# Altium schematic symbol library Pi_AddOn_Rev2.SchLib: 135 symbols
Pins are listed as number, name and electrical type; pins without a type are passive.

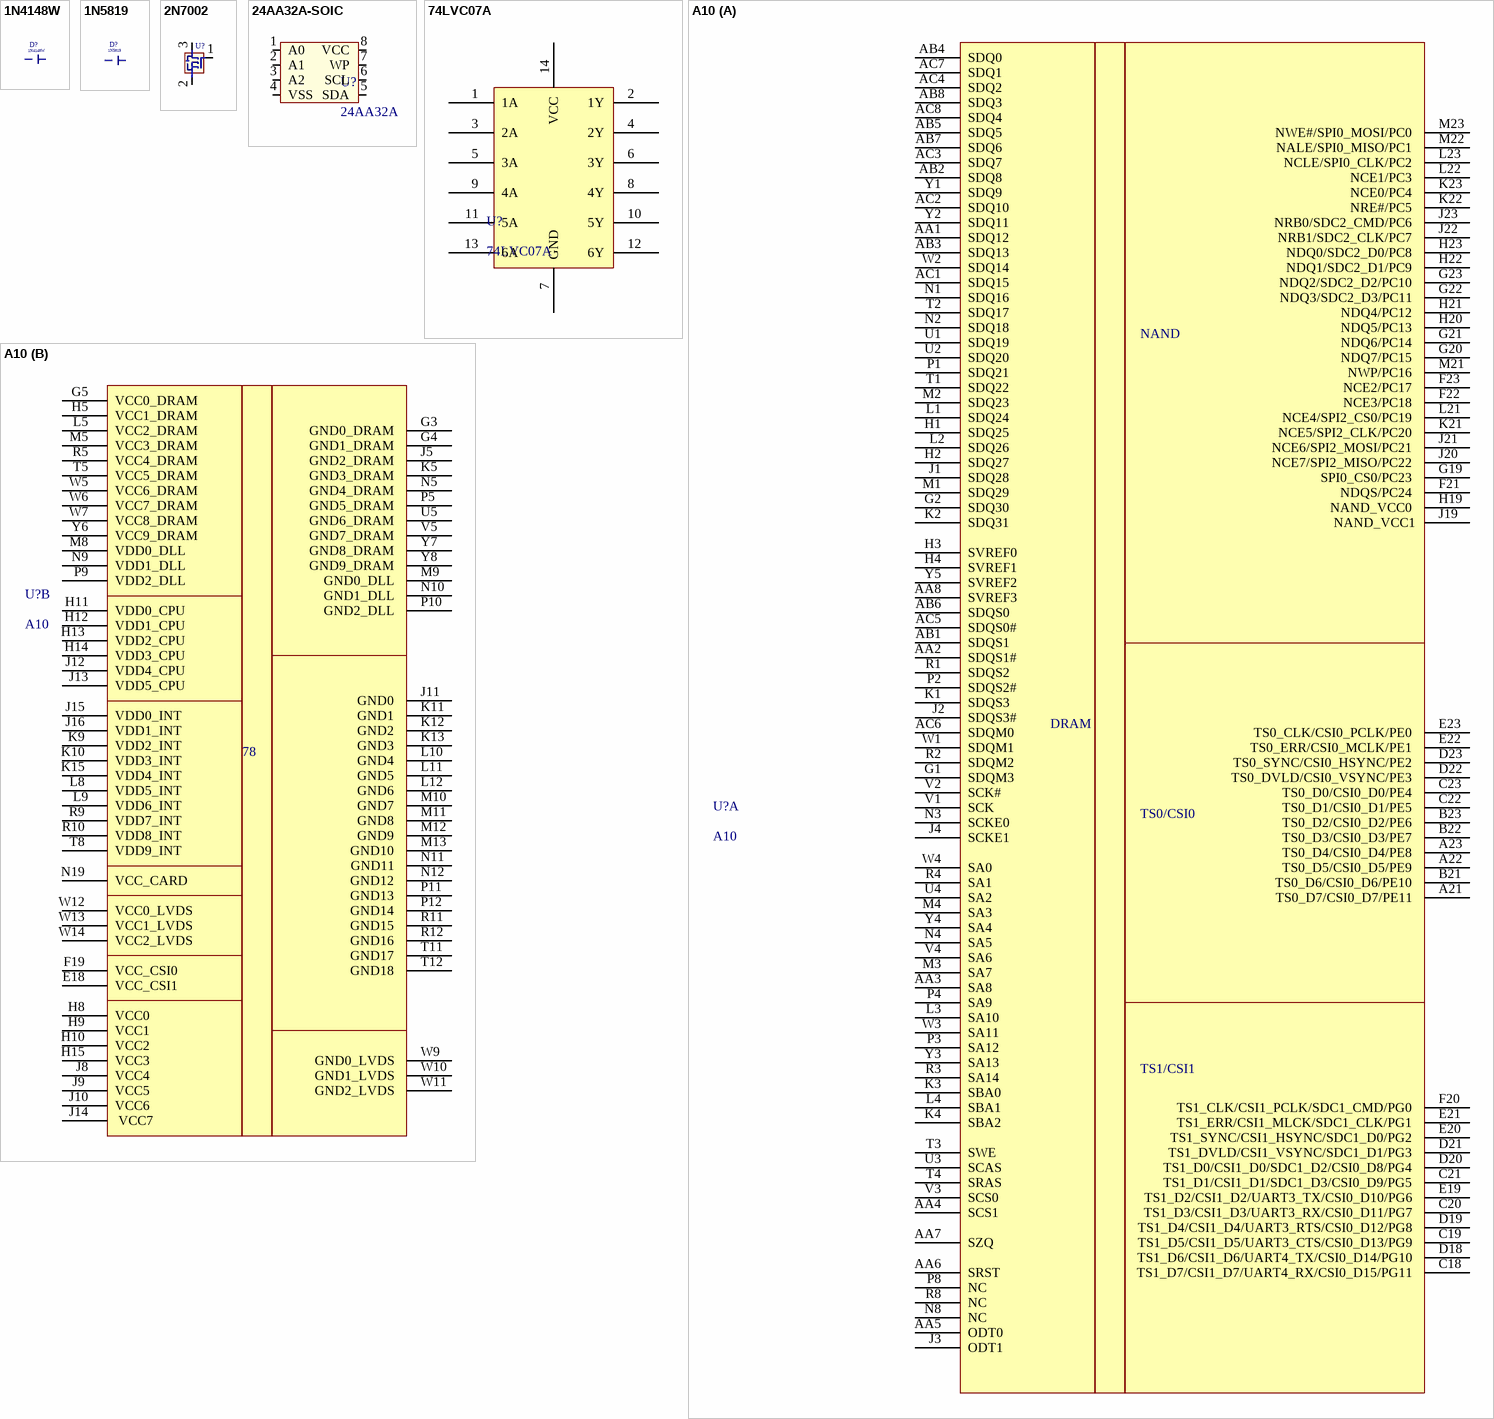
[diagram p0: symbols 1N4148W to A10]

## 1N4148W
designator D?
footprint 1N4148
pins: A, K

## 1N5819
designator D?
footprint 1N5819HW
pins: A, K

## 2N7002
designator U?  (value not drawn)
N-Channel MOSFET
footprint 2N7002 (2N7002 / SOT23)
pins: 1 G, 2 S, 3 D

## 24AA32A-SOIC
designator U?, comment 24AA32A
24AA32A-SOIC-8
footprint SOIC-8
pins: 1 A0, 2 A1, 3 A2, 4 VSS, 5 SDA, 6 SCL, 7 WP, 8 VCC

## 74LVC07A
designator U?
pins: 1 1A, 2 1Y, 3 2A, 4 2Y, 5 3A, 6 3Y, 7 GND, 8 4Y, 9 4A, 10 5Y, 11 5A, 12 6Y, 13 6A, 14 VCC

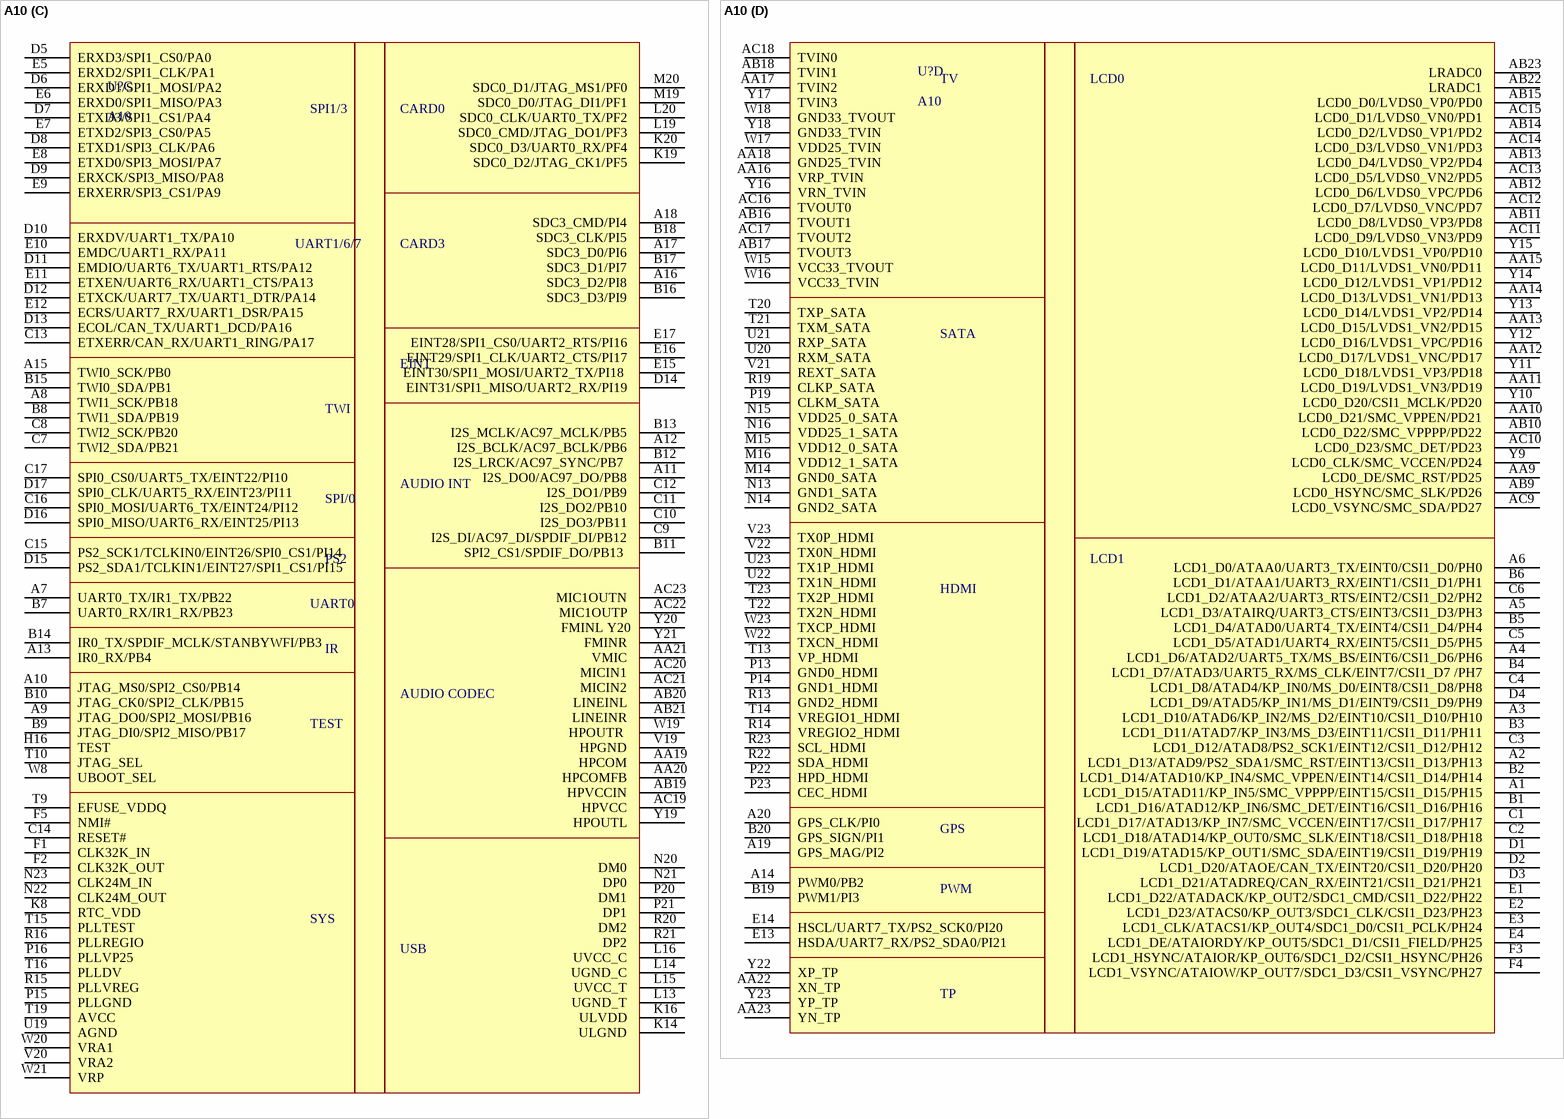
[diagram p1: symbol A10]

## A10
designator U?
Allwinner A10
footprint BGA441C80P23X23_1900X1900X140 (BGA, 441-Leads, Body 19.0x19.0mm,  Pitch 0.80mm)
part A pins: A21  TS0_D7/CSI0_D7/PE11 , A22  TS0_D5/CSI0_D5/PE9 , A23  TS0_D4/CSI0_D4/PE8 , AA1  SDQ12, AA2  SDQS1#, AA3  SA8, AA4  SCS1, AA5  ODT0, AA6  SRST, AA7  SZQ, AA8  SVREF3, AB1  SDQS1, AB2 SDQ8, AB3  SDQ13, AB4 SDQ0, AB5  SDQ5, AB6  SDQS0, AB7  SDQ6, AB8 SDQ3, AC1  SDQ15, AC2  SDQ10, AC3  SDQ7, AC4 SDQ2, AC5  SDQS0#, AC6  SDQM0, AC7 SDQ1, AC8  SDQ4, B21  TS0_D6/CSI0_D6/PE10 , B22  TS0_D3/CSI0_D3/PE7 , B23  TS0_D2/CSI0_D2/PE6 , C18  TS1_D7/CSI1_D7/UART4_RX/CSI0_D15/PG11 , C19  TS1_D5/CSI1_D5/UART3_CTS/CSI0_D13/PG9 , C20  TS1_D3/CSI1_D3/UART3_RX/CSI0_D11/PG7 , C21  TS1_D1/CSI1_D1/SDC1_D3/CSI0_D9/PG5 , C22  TS0_D1/CSI0_D1/PE5 , C23  TS0_D0/CSI0_D0/PE4 , D18  TS1_D6/CSI1_D6/UART4_TX/CSI0_D14/PG10 , D19  TS1_D4/CSI1_D4/UART3_RTS/CSI0_D12/PG8 , D20  TS1_D0/CSI1_D0/SDC1_D2/CSI0_D8/PG4 , D21  TS1_DVLD/CSI1_VSYNC/SDC1_D1/PG3 , D22  TS0_DVLD/CSI0_VSYNC/PE3 , D23  TS0_SYNC/CSI0_HSYNC/PE2 , E19  TS1_D2/CSI1_D2/UART3_TX/CSI0_D10/PG6 , E20  TS1_SYNC/CSI1_HSYNC/SDC1_D0/PG2 , E21  TS1_ERR/CSI1_MLCK/SDC1_CLK/PG1 , E22  TS0_ERR/CSI0_MCLK/PE1 , E23  TS0_CLK/CSI0_PCLK/PE0 , F20  TS1_CLK/CSI1_PCLK/SDC1_CMD/PG0 , F21  NDQS/PC24 , F22  NCE3/PC18 , F23  NCE2/PC17 , G1  SDQM3, G2  SDQ30, G19  SPI0_CS0/PC23 , G20  NDQ7/PC15 , G21  NDQ6/PC14 , G22  NDQ3/SDC2_D3/PC11 , G23  NDQ2/SDC2_D2/PC10 , H1  SDQ25, H2  SDQ27, H3  SVREF0, H4  SVREF1, H19  NAND_VCC0 , H20  NDQ5/PC13 , H21  NDQ4/PC12 , H22  NDQ1/SDC2_D1/PC9 , H23  NDQ0/SDC2_D0/PC8 , J1  SDQ28, J2 SDQS3#, J3  ODT1, J4  SCKE1, J19 NAND_VCC1, J20  NCE7/SPI2_MISO/PC22 , J21  NCE6/SPI2_MOSI/PC21 , J22  NRB1/SDC2_CLK/PC7 , J23  NRB0/SDC2_CMD/PC6 , K1  SDQS3, K2  SDQ31, K3  SBA0, K4  SBA2, K21  NCE5/SPI2_CLK/PC20 , K22  NRE#/PC5 , K23 NCE0/PC4 , L1  SDQ24, L2 SDQ26, L3  SA10, L4  SBA1, L21  NCE4/SPI2_CS0/PC19 , L22 NCE1/PC3 , L23 NCLE/SPI0_CLK/PC2 , M1  SDQ29, M2  SDQ23, M3  SA7, M4  SA3, M21  NWP/PC16 , M22 NALE/SPI0_MISO/PC1 , M23 NWE#/SPI0_MOSI/PC0 , N1  SDQ16, N2  SDQ18, N3  SCKE0, N4  SA5, N8  NC, P1  SDQ21, P2  SDQS2#, P3  SA12, P4  SA9, P8  NC, R1  SDQS2, R2  SDQM2, R3  SA14, R4  SA1, R8  NC, T1  SDQ22, T2  SDQ17, T3  SWE, T4  SRAS, U1  SDQ19, U2  SDQ20, U3  SCAS, U4  SA2, V1  SCK, V2  SCK#, V3  SCS0, V4  SA6, W1  SDQM1, W2  SDQ14, W3  SA11, W4  SA0, Y1  SDQ9, Y2  SDQ11, Y3  SA13, Y4  SA4, Y5  SVREF2
part B pins: E18   VCC_CSI1, F19   VCC_CSI0, G3  GND0_DRAM , G4  GND1_DRAM , G5  VCC0_DRAM, H5  VCC1_DRAM, H8   VCC0, H9   VCC1, H10   VCC2, H11  VDD0_CPU, H12  VDD1_CPU, H13   VDD2_CPU, H14  VDD3_CPU, H15   VCC3, J5  GND2_DRAM , J8  VCC4, J9   VCC5, J10  VCC6, J11 GND0 , J12   VDD4_CPU, J13  VDD5_CPU, J14   VCC7, J15   VDD0_INT, J16   VDD1_INT, K5  GND3_DRAM , K9   VDD2_INT, K10   VDD3_INT, K11  GND1 , K12  GND2 , K13  GND3 , K15   VDD4_INT, L5  VCC2_DRAM, L8   VDD5_INT, L9  VDD6_INT, L10  GND4 , L11  GND5 , L12  GND6 , M5  VCC3_DRAM, M8  VDD0_DLL, M9  GND0_DLL , M10  GND7 , M11  GND8 , M12  GND9 , M13  GND10 , N5  GND4_DRAM , N9  VDD1_DLL, N10  GND1_DLL , N11  GND11 , N12  GND12 , N19   VCC_CARD, P5  GND5_DRAM , P9  VDD2_DLL, P10  GND2_DLL , P11  GND13 , P12  GND14 , R5  VCC4_DRAM, R9   VDD7_INT, R10   VDD8_INT, R11  GND15 , R12  GND16 , T5  VCC5_DRAM, T8   VDD9_INT, T11  GND17 , T12  GND18 , U5  GND6_DRAM , V5  GND7_DRAM , W5  VCC6_DRAM, W6  VCC7_DRAM, W7  VCC8_DRAM, W9  GND0_LVDS , W10  GND1_LVDS , W11  GND2_LVDS , W12   VCC0_LVDS, W13   VCC1_LVDS, W14   VCC2_LVDS, Y6  VCC9_DRAM, Y7  GND8_DRAM , Y8  GND9_DRAM 
part C pins: A7   UART0_TX/IR1_TX/PB22, A8   TWI1_SCK/PB18, A9   JTAG_DO0/SPI2_MOSI/PB16, A10   JTAG_MS0/SPI2_CS0/PB14, A11  I2S_DO0/AC97_DO/PB8 , A12  I2S_BCLK/AC97_BCLK/PB6 , A13  IR0_RX/PB4, A15   TWI0_SCK/PB0, A16  SDC3_D2/PI8 , A17  SDC3_D0/PI6 , A18  SDC3_CMD/PI4 , AA19  HPCOM , AA20  HPCOMFB , AA21  VMIC , AB19  HPVCCIN , AB20  LINEINL , AB21  LINEINR , AC19  HPVCC , AC20  MICIN1 , AC21  MICIN2 , AC22  MIC1OUTP , AC23  MIC1OUTN , B7   UART0_RX/IR1_RX/PB23, B8   TWI1_SDA/PB19, B9   JTAG_DI0/SPI2_MISO/PB17, B10   JTAG_CK0/SPI2_CLK/PB15, B11  SPI2_CS1/SPDIF_DO/PB13  , B12  I2S_LRCK/AC97_SYNC/PB7  , B13  I2S_MCLK/AC97_MCLK/PB5 , B14  IR0_TX/SPDIF_MCLK/STANBYWFI/PB3, B15   TWI0_SDA/PB1, B16  SDC3_D3/PI9 , B17  SDC3_D1/PI7 , B18  SDC3_CLK/PI5 , C7   TWI2_SDA/PB21, C8   TWI2_SCK/PB20, C9  I2S_DI/AC97_DI/SPDIF_DI/PB12 , C10  I2S_DO3/PB11 , C11  I2S_DO2/PB10 , C12  I2S_DO1/PB9 , C13   ETXERR/CAN_RX/UART1_RING/PA17, C14  RESET#, C15   PS2_SCK1/TCLKIN0/EINT26/SPI0_CS1/PI14, C16   SPI0_MOSI/UART6_TX/EINT24/PI12, C17   SPI0_CS0/UART5_TX/EINT22/PI10, D5   ERXD3/SPI1_CS0/PA0, D6   ERXD1/SPI1_MOSI/PA2, D7  ETXD3/SPI1_CS1/PA4, D8   ETXD1/SPI3_CLK/PA6, D9   ERXCK/SPI3_MISO/PA8, D10   ERXDV/UART1_TX/PA10, D11   EMDIO/UART6_TX/UART1_RTS/PA12, D12   ETXCK/UART7_TX/UART1_DTR/PA14, D13   ECOL/CAN_TX/UART1_DCD/PA16, D14  EINT31/SPI1_MISO/UART2_RX/PI19 , D15   PS2_SDA1/TCLKIN1/EINT27/SPI1_CS1/PI15, D16   SPI0_MISO/UART6_RX/EINT25/PI13, D17   SPI0_CLK/UART5_RX/EINT23/PI11, E5   ERXD2/SPI1_CLK/PA1, E6  ERXD0/SPI1_MISO/PA3, E7  ETXD2/SPI3_CS0/PA5, E8   ETXD0/SPI3_MOSI/PA7, E9   ERXERR/SPI3_CS1/PA9, E10   EMDC/UART1_RX/PA11, E11   ETXEN/UART6_RX/UART1_CTS/PA13, E12   ECRS/UART7_RX/UART1_DSR/PA15, E15  EINT30/SPI1_MOSI/UART2_TX/PI18  , E16  EINT29/SPI1_CLK/UART2_CTS/PI17 , E17  EINT28/SPI1_CS0/UART2_RTS/PI16 , F1   CLK32K_IN, F2   CLK32K_OUT, F5   NMI#, H16   TEST, K8   RTC_VDD, K14  ULGND , K16  ULVDD , K19  SDC0_D2/JTAG_CK1/PF5 , K20  SDC0_D3/UART0_RX/PF4 , L13  UGND_T , L14  UGND_C , L15  UVCC_T , L16  UVCC_C , L19  SDC0_CMD/JTAG_DO1/PF3 , L20  SDC0_CLK/UART0_TX/PF2 , M19  SDC0_D0/JTAG_DI1/PF1 , M20  SDC0_D1/JTAG_MS1/PF0 , N20  DM0 , N21  DP0 , N22   CLK24M_OUT, N23   CLK24M_IN, P15   PLLGND, P16   PLLVP25, P20 DM1 , P21  DP1 , R15   PLLVREG, R16   PLLREGIO, R20  DM2 , R21  DP2 , T9   EFUSE_VDDQ, T10   JTAG_SEL, T15   PLLTEST, T16   PLLDV, T19   AVCC, U19   AGND, V19  HPGND , V20   VRA2, W8   UBOOT_SEL, W19  HPOUTR  , W20   VRA1, W21   VRP, Y19  HPOUTL , Y20  FMINL Y20, Y21  FMINR 
part D pins: A1  LCD1_D15/ATAD11/KP_IN5/SMC_VPPPP/EINT15/CSI1_D15/PH15 , A2  LCD1_D13/ATAD9/PS2_SDA1/SMC_RST/EINT13/CSI1_D13/PH13 , A3  LCD1_D10/ATAD6/KP_IN2/MS_D2/EINT10/CSI1_D10/PH10 , A4  LCD1_D6/ATAD2/UART5_TX/MS_BS/EINT6/CSI1_D6/PH6 , A5  LCD1_D3/ATAIRQ/UART3_CTS/EINT3/CSI1_D3/PH3 , A6  LCD1_D0/ATAA0/UART3_TX/EINT0/CSI1_D0/PH0 , A14 PWM0/PB2, A19  GPS_MAG/PI2, A20  GPS_CLK/PI0, AA9  LCD0_DE/SMC_RST/PD25 , AA10  LCD0_D21/SMC_VPPEN/PD21 , AA11  LCD0_D19/LVDS1_VN3/PD19 , AA12  LCD0_D17/LVDS1_VNC/PD17 , AA13  LCD0_D15/LVDS1_VN2/PD15 , AA14  LCD0_D13/LVDS1_VN1/PD13 , AA15  LCD0_D11/LVDS1_VN0/PD11 , AA16  VRP_TVIN, AA17 TVIN2 , AA18  GND25_TVIN, AA22  XN_TP, AA23  YN_TP, AB9  LCD0_HSYNC/SMC_SLK/PD26 , AB10  LCD0_D22/SMC_VPPPP/PD22 , AB11  LCD0_D8/LVDS0_VP3/PD8 , AB12  LCD0_D6/LVDS0_VPC/PD6 , AB13  LCD0_D4/LVDS0_VP2/PD4 , AB14  LCD0_D2/LVDS0_VP1/PD2 , AB15  LCD0_D0/LVDS0_VP0/PD0 , AB16  TVOUT1, AB17  TVOUT3, AB18 TVIN1, AB22  LRADC1 , AB23  LRADC0 , AC9  LCD0_VSYNC/SMC_SDA/PD27 , AC10  LCD0_D23/SMC_DET/PD23 , AC11  LCD0_D9/LVDS0_VN3/PD9 , AC12  LCD0_D7/LVDS0_VNC/PD7 , AC13  LCD0_D5/LVDS0_VN2/PD5 , AC14  LCD0_D3/LVDS0_VN1/PD3 , AC15  LCD0_D1/LVDS0_VN0/PD1 , AC16  TVOUT0, AC17  TVOUT2, AC18 TVIN0, B1  LCD1_D16/ATAD12/KP_IN6/SMC_DET/EINT16/CSI1_D16/PH16 , B2  LCD1_D14/ATAD10/KP_IN4/SMC_VPPEN/EINT14/CSI1_D14/PH14 , B3  LCD1_D11/ATAD7/KP_IN3/MS_D3/EINT11/CSI1_D11/PH11 , B4  LCD1_D7/ATAD3/UART5_RX/MS_CLK/EINT7/CSI1_D7 /PH7 , B5  LCD1_D4/ATAD0/UART4_TX/EINT4/CSI1_D4/PH4 , B6  LCD1_D1/ATAA1/UART3_RX/EINT1/CSI1_D1/PH1 , B19 PWM1/PI3, B20  GPS_SIGN/PI1, C1  LCD1_D17/ATAD13/KP_IN7/SMC_VCCEN/EINT17/CSI1_D17/PH17 , C2  LCD1_D18/ATAD14/KP_OUT0/SMC_SLK/EINT18/CSI1_D18/PH18 , C3  LCD1_D12/ATAD8/PS2_SCK1/EINT12/CSI1_D12/PH12 , C4  LCD1_D8/ATAD4/KP_IN0/MS_D0/EINT8/CSI1_D8/PH8 , C5  LCD1_D5/ATAD1/UART4_RX/EINT5/CSI1_D5/PH5 , C6  LCD1_D2/ATAA2/UART3_RTS/EINT2/CSI1_D2/PH2 , D1  LCD1_D19/ATAD15/KP_OUT1/SMC_SDA/EINT19/CSI1_D19/PH19 , D2  LCD1_D20/ATAOE/CAN_TX/EINT20/CSI1_D20/PH20 , D3  LCD1_D21/ATADREQ/CAN_RX/EINT21/CSI1_D21/PH21 , D4  LCD1_D9/ATAD5/KP_IN1/MS_D1/EINT9/CSI1_D9/PH9 , E1  LCD1_D22/ATADACK/KP_OUT2/SDC1_CMD/CSI1_D22/PH22 , E2  LCD1_D23/ATACS0/KP_OUT3/SDC1_CLK/CSI1_D23/PH23 , E3  LCD1_CLK/ATACS1/KP_OUT4/SDC1_D0/CSI1_PCLK/PH24 , E4  LCD1_DE/ATAIORDY/KP_OUT5/SDC1_D1/CSI1_FIELD/PH25 , E13 HSDA/UART7_RX/PS2_SDA0/PI21, E14 HSCL/UART7_TX/PS2_SCK0/PI20, F3  LCD1_HSYNC/ATAIOR/KP_OUT6/SDC1_D2/CSI1_HSYNC/PH26 , F4  LCD1_VSYNC/ATAIOW/KP_OUT7/SDC1_D3/CSI1_VSYNC/PH27 , M14  GND0_SATA, M15  VDD12_0_SATA, M16  VDD12_1_SATA, N13  GND1_SATA, N14  GND2_SATA, N15  VDD25_0_SATA, N16  VDD25_1_SATA, P13  GND0_HDMI, P14  GND1_HDMI, P19  CLKM_SATA, P22  HPD_HDMI, P23  CEC_HDMI, R13  GND2_HDMI, R14  VREGIO2_HDMI, R19  CLKP_SATA, R22  SDA_HDMI, R23  SCL_HDMI, T13  VP_HDMI, T14  VREGIO1_HDMI, T20  TXP_SATA, T21  TXM_SATA, T22  TX2N_HDMI, T23  TX2P_HDMI, U20  RXM_SATA, U21  RXP_SATA, U22  TX1N_HDMI, U23  TX1P_HDMI, V21  REXT_SATA, V22  TX0N_HDMI, V23  TX0P_HDMI, W15  VCC33_TVOUT, W16  VCC33_TVIN, W17  VDD25_TVIN, W18  GND33_TVOUT, W22  TXCN_HDMI, W23  TXCP_HDMI, Y9  LCD0_CLK/SMC_VCCEN/PD24 , Y10  LCD0_D20/CSI1_MCLK/PD20 , Y11  LCD0_D18/LVDS1_VP3/PD18 , Y12  LCD0_D16/LVDS1_VPC/PD16 , Y13  LCD0_D14/LVDS1_VP2/PD14 , Y14  LCD0_D12/LVDS1_VP1/PD12 , Y15  LCD0_D10/LVDS1_VP0/PD10 , Y16  VRN_TVIN, Y17  TVIN3, Y18  GND33_TVIN, Y22  XP_TP, Y23  YP_TP
part A text: NAND; DRAM; TS0/CSI0; TS1/CSI1
part B text: 78
part C text: SPI1/3; CARD0; UART1/6/7; CARD3; EINT; TWI; AUDIO INT; SPI/0; PS2; UART0; IR; AUDIO CODEC; SYS; USB
part D text: TV; LCD0; SATA; LCD1; HDMI; GPS; PWM; TP

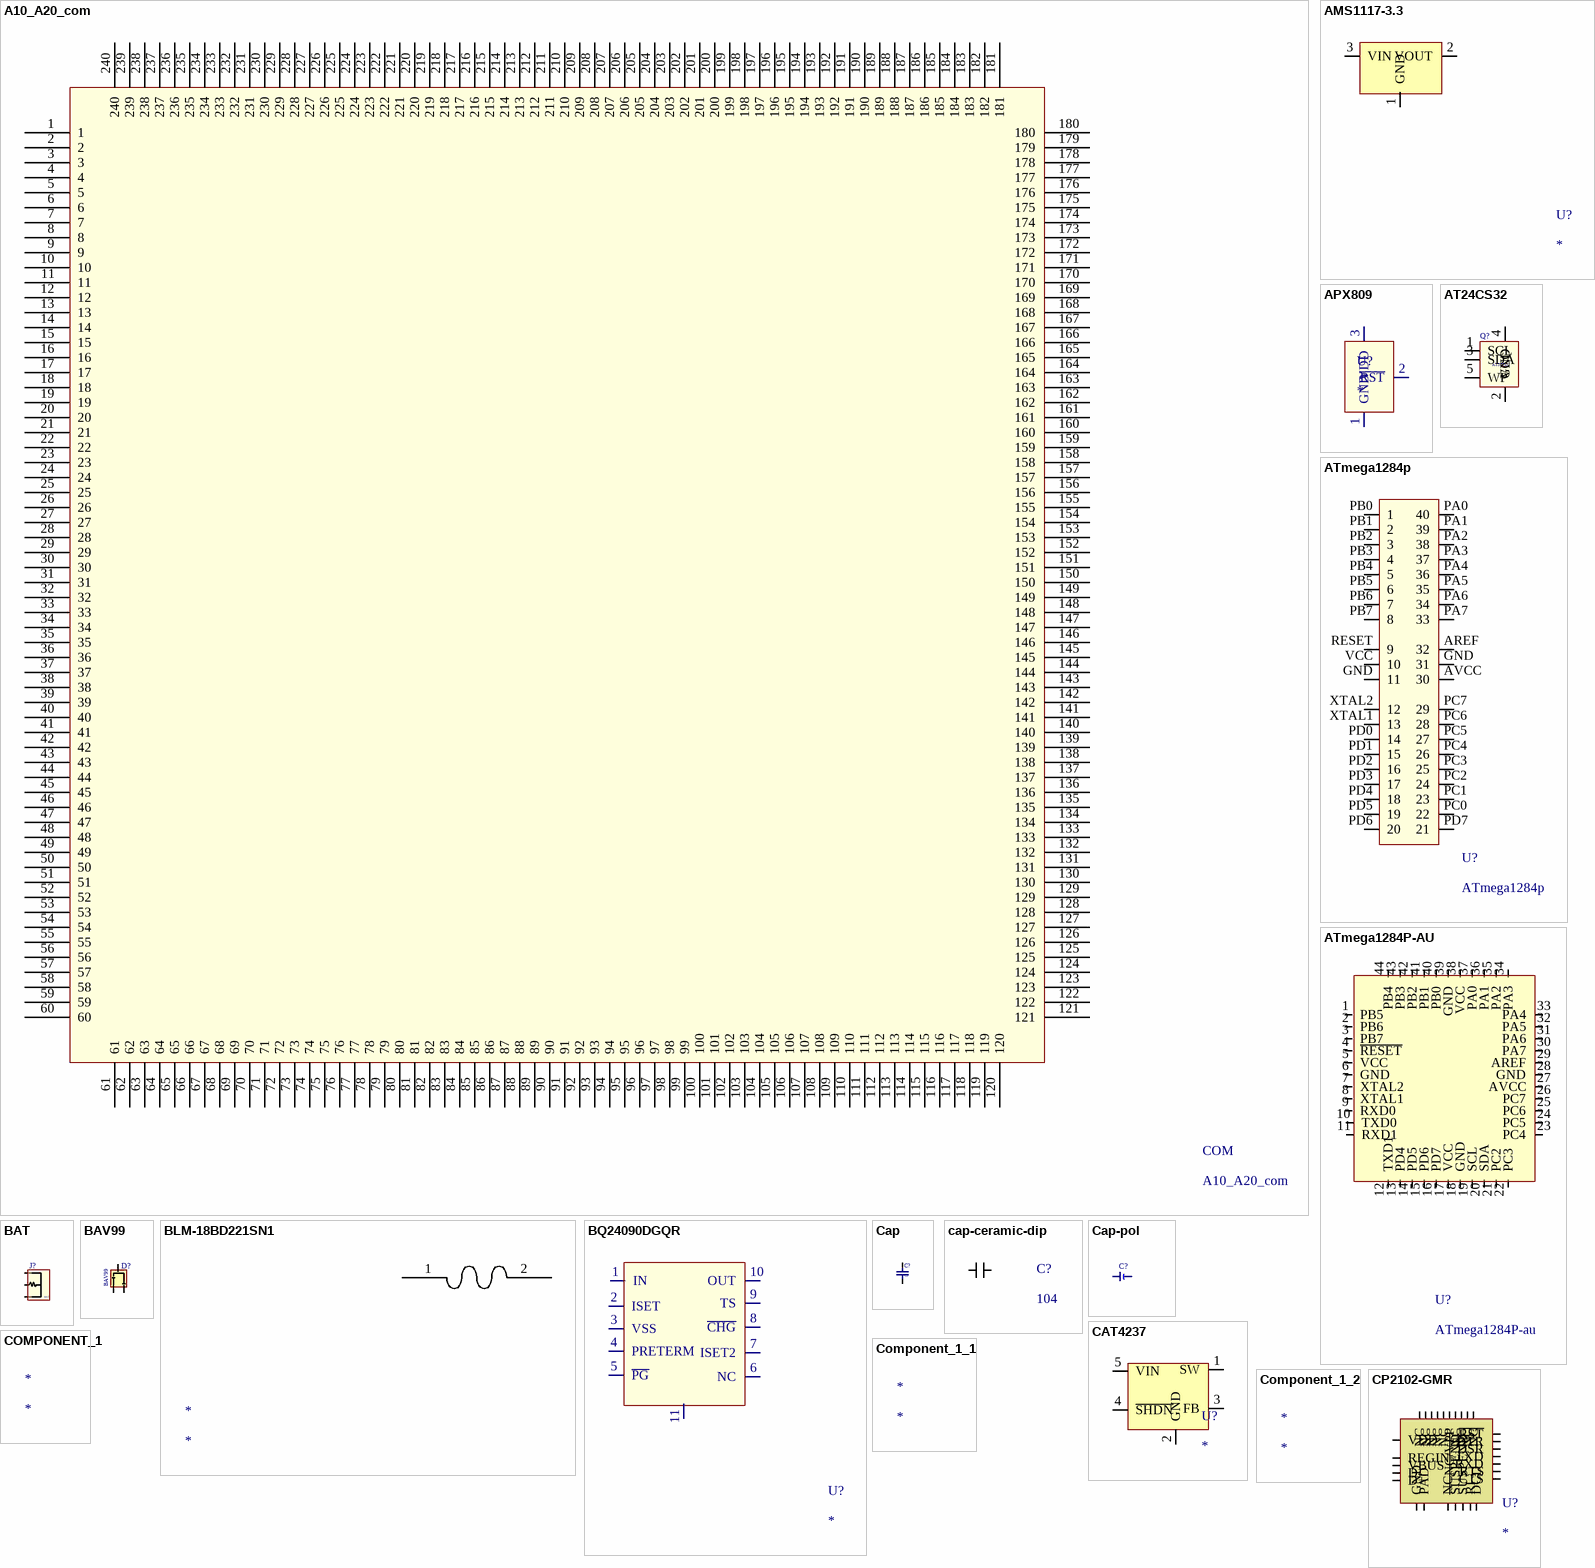
[diagram p2: symbols A10_A20_com to CP2102-GMR]

## A10_A20_com
designator COM
footprint A10/20_com
pins: 1, 2, 3, 4, 5, 6, 7, 8, 9, 10, 11, 12, 13, 14, 15, 16, 17, 18, 19, 20, 21, 22, 23, 24, 25, 26, 27, 28, 29, 30, 31, 32, 33, 34, 35, 36, 37, 38, 39, 40, 41, 42, 43, 44, 45, 46, 47, 48, 49, 50, 51, 52, 53, 54, 55, 56, 57, 58, 59, 60, 61, 62, 63, 64, 65, 66, 67, 68, 69, 70, 71, 72, 73, 74, 75, 76, 77, 78, 79, 80, 81, 82, 83, 84, 85, 86, 87, 88, 89, 90, 91, 92, 93, 94, 95, 96, 97, 98, 99, 100, 101, 102, 103, 104, 105, 106, 107, 108, 109, 110, 111, 112, 113, 114, 115, 116, 117, 118, 119, 120, 121, 122, 123, 124, 125, 126, 127, 128, 129, 130, 131, 132, 133, 134, 135, 136, 137, 138, 139, 140, 141, 142, 143, 144, 145, 146, 147, 148, 149, 150, 151, 152, 153, 154, 155, 156, 157, 158, 159, 160, 161, 162, 163, 164, 165, 166, 167, 168, 169, 170, 171, 172, 173, 174, 175, 176, 177, 178, 179, 180, 181, 182, 183, 184, 185, 186, 187, 188, 189, 190, 191, 192, 193, 194, 195, 196, 197, 198, 199, 200, 201, 202, 203, 204, 205, 206, 207, 208, 209, 210, 211, 212, 213, 214, 215, 216, 217, 218, 219, 220, 221, 222, 223, 224, 225, 226, 227, 228, 229, 230, 231, 232, 233, 234, 235, 236, 237, 238, 239, 240

## AMS1117-3.3
designator U?
footprint AMS1117
pins: 1 GND, 2 VOUT, 3 VIN

## APX809
designator U?
Volt Monitor
footprint APX809
pins: 1 GND, 2 ~{RST}, 3 VDD

## AT24CS32
designator Q?
EEPROM 32Kb (4,096 X 8) TWI
footprint SOT23-5PIN
pins: 1 SCL, 2 GND, 3 SDA, 4 VCC, 5 WP

## ATmega1284p
designator U?
footprint ATmega1284p
pins: AREF 32, AVCC 30, GND 11, GND 31, PA0 40, PA1 39, PA2 38, PA3 37, PA4 36, PA5 35, PA6 34, PA7 33, PB0 1, PB1 2, PB2 3, PB3 4, PB4 5, PB5 6, PB6 7, PB7 8, PC0 22, PC1 23, PC2 24, PC3 25, PC4 26, PC5 27, PC6 28, PC7 29, PD0 14, PD1 15, PD2 16, PD3 17, PD4 18, PD5 19, PD6 20, PD7 21, RESET 9, VCC 10, XTAL1 13, XTAL2 12

## ATmega1284P-AU
designator U?, comment ATmega1284P-au
footprint TQFP-44
pins: 1 PB5, 2 PB6, 3 PB7, 4 ~{RESET}, 5 VCC, 6 GND, 7 XTAL2, 8 XTAL1, 9 RXD0, 10 TXD0, 11 RXD1, 12 TXD1, 13 PD4, 14 PD5, 15 PD6, 16 PD7, 17 VCC, 18 GND, 19 SCL, 20 SDA, 21 PC2, 22 PC3, 23 PC4, 24 PC5, 25 PC6, 26 PC7, 27 AVCC, 28 GND, 29 AREF, 30 PA7, 31 PA6, 32 PA5, 33 PA4, 34 PA3, 35 PA2, 36 PA1, 37 PA0, 38 VCC, 39 GND, 40 PB0, 41 PB1, 42 PB2, 43 PB3, 44 PB4

## BAT
designator J?
3 pin Connector
footprint BAT
pins: 1 VCC, 2 NTC, 3 GND

## BAV99
designator D?
Dual-Diode
footprint SOT-23 (SOT23, 3-Leads, Body 3.0x2.5mm (max), Pitch 0.95mm, IPC Medium Density)
pins: 1 G, 2 C, 3 A

## BLM-18BD221SN1
designator *
pins: 1, 2

## BQ24090DGQR
designator U?
footprint BQ24090DGQR
pins: 1 IN, 2 ISET, 3 VSS, 4 PRETERM, 5 ~{PG}, 6 NC, 7 ISET2, 8 ~{CHG}, 9 TS, 10 OUT, 11

## Cap
designator C?, comment 1uF
footprint 0402
footprint 0603
footprint 0805
footprint 1210
pins: 1, 2

## cap-ceramic-dip
designator C?, comment 104
footprint Capacitor
pins: 1, 2

## Cap-pol
designator C?, comment Pol-CAP  (value not drawn)
Cap
footprint 2917-POL
footprint Cap-Radial (D-10mm, L-10.2mm)
footprint 1210-POL
footprint Radial-Cap-Pol (6SVPE220MW)
pins: A, K

## CAT4237
designator U?
footprint CAT4237
pins: 1 SW, 2 GND, 3 FB, 4 ~{SHDN}, 5 VIN

## COMPONENT_1
designator *

## Component_1_1
designator *

## Component_1_2
designator *

## CP2102-GMR
designator U?
CP2102
footprint QFN28
pins: 1 DCD (power), 2 RI (power), 3 GND (power), 4 D+ (power), 5 D- (power), 6 VDD (power), 7 REGIN (power), 8 VBUS (power), 9 ~{RST} (power), 10 NC (power), 11 ~{SUSPEND} (power), 12 SUSPEND (power), 13 NC (power), 14 NC (power), 15 NC (power), 16 NC (power), 17 NC (power), 18 NC/VPP (power), 19 NC (power), 20 NC (power), 21 NC (power), 22 NC (power), 23 CTS (power), 24 RTS (power), 25 RXD (power), 26 TXD (power), 27 DSR (power), 28 DTR (power), 29 PAD (power)

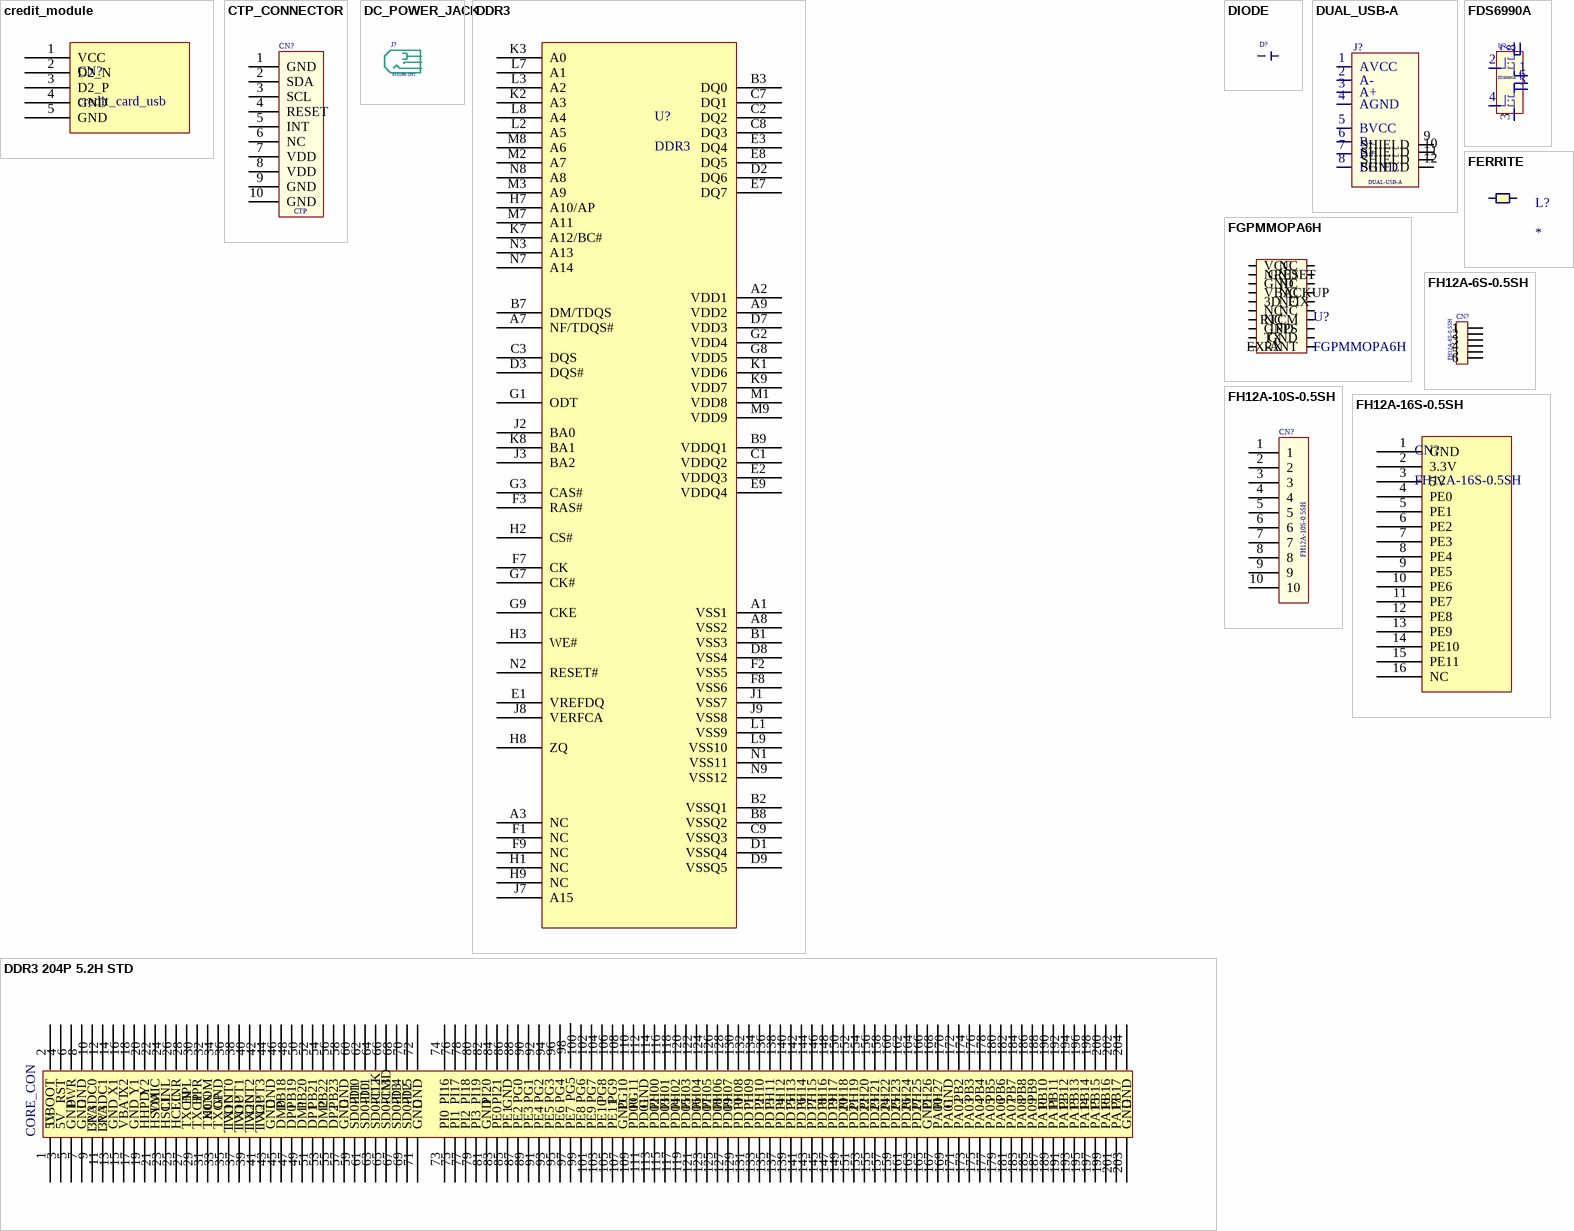
[diagram p3: symbols credit_module to FH12A-16S-0.5SH]

## credit_module
designator CN?, comment credit_card_usb
footprint printer_con
pins: 1 VCC, 2 D2_N, 3 D2_P, 4 GND, 5 GND

## CTP_CONNECTOR
designator CN?, comment CTP
0.5 pitch, 10 pin, top connector
footprint ctp_connector (CTP connector 0.5 PITCH 10-pins top contact)
pins: 1 GND, 2 SDA, 3 SCL, 4 RESET, 5 INT, 6 NC, 7 VDD, 8 VDD, 9 GND, 10 GND

## DC_POWER_JACK
designator J?, comment PJ-018H-SMT
DC_POWER
footprint DC_POWER_JACK (PJ-018H-SMT, 24V, 5A, right angle + SMT)
pins: 1, 2, 3

## DDR3
designator U?
pins: A1 VSS1, A2 VDD1, A3 NC, A7 NF/TDQS#, A8 VSS2, A9 VDD2, B1 VSS3, B2 VSSQ1, B3 DQ0, B7 DM/TDQS, B8 VSSQ2, B9 VDDQ1, C1 VDDQ2, C2 DQ2, C3 DQS, C7 DQ1, C8 DQ3, C9 VSSQ3, D1 VSSQ4, D2 DQ6, D3 DQS#, D7 VDD3, D8 VSS4, D9 VSSQ5, E1 VREFDQ, E2 VDDQ3, E3 DQ4, E7 DQ7, E8 DQ5, E9 VDDQ4, F1 NC, F2 VSS5, F3 RAS#, F7 CK, F8 VSS6, F9 NC, G1 ODT, G2 VDD4, G3 CAS#, G7 CK#, G8 VDD5, G9 CKE, H1 NC, H2 CS#, H3 WE#, H7 A10/AP, H8 ZQ, H9 NC, J1 VSS7, J2 BA0, J3 BA2, J7 A15, J8 VERFCA, J9 VSS8, K1 VDD6, K2 A3, K3 A0, K7 A12/BC#, K8 BA1, K9 VDD7, L1 VSS9, L2 A5, L3 A2, L7 A1, L8 A4, L9 VSS10, M1 VDD8, M2 A7, M3 A9, M7 A11, M8 A6, M9 VDD9, N1 VSS11, N2 RESET#, N3 A13, N7 A14, N8 A8, N9 VSS12

## DDR3 204P 5.2H STD
designator *CORE_CON
AW2042 / AW2041; DDR3 204P 5.2H STD: *
footprint DDR3_STD_CORE Connector
pins: 1 5V, 2 UBOOT, 3 5V, 4 RST, 5 GND, 6 PWR, 7 GND, 8 GND, 9 3V3, 10 LRADC0, 11 3V3, 12 LRADC1, 13 GND, 14 X1, 15 VBAT, 16 X2, 17 GND, 18 Y1, 19 HHPD, 20 Y2, 21 HSDA, 22 VMIC, 23 HSCL, 24 LINL, 25 HCEC, 26 LINR, 27 TXCN, 28 HPL, 29 TXCP, 30 HPR, 31 TX0N, 32 HCOM, 33 TXOP, 34 GND, 35 TX1N, 36 TVOUT0, 37 TX1P, 38 TVOUT1, 39 TX2N, 40 TVOUT2, 41 TX2P, 42 TVOUT3, 43 GND, 44 GND, 45 DM0, 46 PB18, 47 DP0, 48 PB19, 49 DM1, 50 PB20, 51 DP1, 52 PB21, 53 DM2, 54 PB22, 55 DP2, 56 PB23, 57 GND, 58 GND, 59 SD0-D1, 60 PI10, 61 SD0-D0, 62 PI11, 63 SD0-CLK, 64 PI12, 65 SD0-CMD, 66 PI13, 67 SD0-D3, 68 PI14, 69 SD0-D2, 70 PI15, 71 GND, 72 GND, 73 PI0, 74 PI16, 75 PI1, 76 PI17, 77 PI2, 78 PI18, 79 PI3, 80 PI19, 81 GND, 82 PI20, 83 PE0, 84 PI21, 85 PE1, 86 GND, 87 PE2, 88 PG0, 89 PE3, 90 PG1, 91 PE4, 92 PG2, 93 PE5, 94 PG3, 95 PE6, 96 PG4, 97 PE7, 98 PG5, 99 PE8, 100 PG6, 101 PE9, 102 PG7, 103 PE10, 104 PG8, 105 PE11, 106 PG9, 107 GND, 108 PG10, 109 PD00, 110 PG11, 111 PD01, 112 GND, 113 PD02, 114 PH00, 115 PD03, 116 PH01, 117 PD04, 118 PH02, 119 PD05, 120 PH03, 121 PD06, 122 PH04, 123 PD07, 124 PH05, 125 PD08, 126 PH06, 127 PD09, 128 PH07, 129 PD10, 130 PH08, 131 PD11, 132 PH09, 133 PD12, 134 PH10, 135 PD13, 136 PH11, 137 PD14, 138 PH12, 139 PD15, 140 PH13, 141 PD16, 142 PH14, 143 PD17, 144 PH15, 145 PD18, 146 PH16, 147 PD19, 148 PH17, 149 PD20, 150 PH18, 151 PD21, 152 PH19, 153 PD22, 154 PH20, 155 PD23, 156 PH21, 157 PD24, 158 PH22, 159 PD25, 160 PH23, 161 PD26, 162 PH24, 163 PD27, 164 PH25, 165 GND, 166 PH26, 167 PA00, 168 PH27, 169 PA01, 170 GND, 171 PA02, 172 PB2, 173 PA03, 174 PB3, 175 PA04, 176 PB4, 177 PA05, 178 PB5, 179 PA06, 180 PB6, 181 PA07, 182 PB7, 183 PA08, 184 PB8, 185 PA09, 186 PB9, 187 PA10, 188 PB10, 189 PA11, 190 PB11, 191 PA12, 192 PB12, 193 PA13, 194 PB13, 195 PA14, 196 PB14, 197 PA15, 198 PB15, 199 PA16, 200 PB16, 201 PA17, 202 PB17, 203 GND, 204 GND
text: CORE_CON

## DIODE
designator D?
footprint SOD128-DIODE
footprint SOD123-POL
footprint SM5817 (LL5817  SMD)
footprint DO-214AA - Power Diode
footprint SOD-80
footprint DO-41
pins: A, K

## DUAL_USB-A
designator J?, comment DUAL-USB-A
footprint Dual USB-A
pins: 1 AVCC, 2 A-, 3 A+, 4 AGND, 5 BVCC, 6 B-, 7 B+, 8 BGND, 9 SHIELD, 10 SHIELD, 11 SHIELD, 12 SHIELD

## FDS6990A
designator U?
Dual N-Channel Logic Level PowerTrench- MOSFET
footprint SO-8
pins: 1 S1, 2 G1, 3, 4 G2, 5 D1, 6 D1, 7 D2, 8 D2

## FERRITE
designator L?
Ferrite
footprint ILBB_0603
pins: 1, 2

## FGPMMOPA6H
designator U?
FGPMMOPA6H MT3339 chipset
footprint FGPMMOPA6H
pins: 1 VCC, 2 NRESET, 3 GND, 4 VBACKUP, 5 3D_FIX, 6 NC, 7 NC, 8 GND, 9 TX, 10 RX, 11 EX-ANT, 12 GND, 13 1PPS, 14 RTCM, 15 NC, 16 NC, 17 NC, 18 NC, 19 GND, 20 NC

## FH12A-6S-0.5SH
designator CN?
footprint FFC/SM1.0-2H6 (Connector; FH12 Series; 6 Position; 1.0mm Spaced Bottom Eccentric Contact)
pins: 1, 2, 3, 4, 5, 6

## FH12A-10S-0.5SH
designator CN?
footprint FFC/SM0.5-2H10 (Connector; FH12 Series; 10 Position; 0.5mm Spaced Bottom Contact)
pins: 1, 2, 3, 4, 5, 6, 7, 8, 9, 10

## FH12A-16S-0.5SH
designator CN?
pins: 1 GND, 2 3.3V, 3 5V, 4 PE0, 5 PE1, 6 PE2, 7 PE3, 8 PE4, 9 PE5, 10 PE6, 11 PE7, 12 PE8, 13 PE9, 14 PE10, 15 PE11, 16 NC

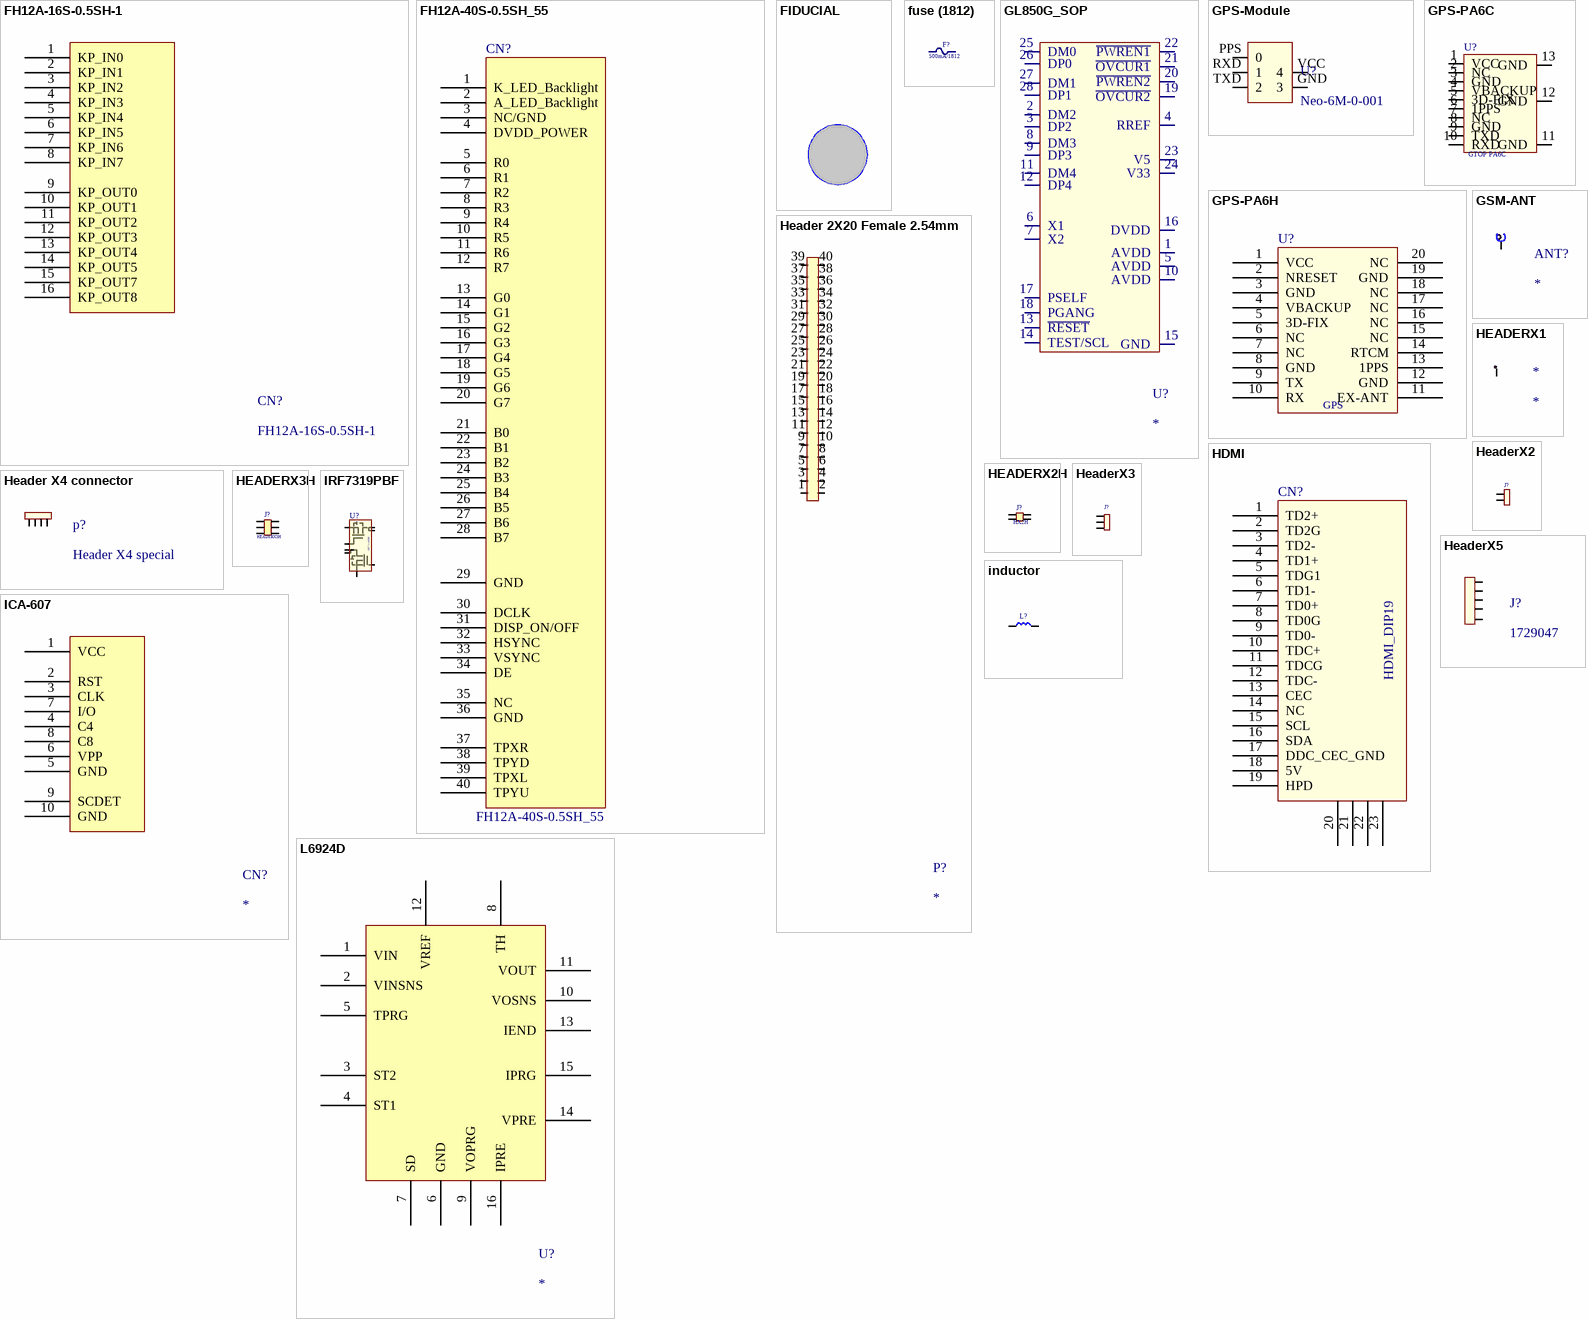
[diagram p4: symbols FH12A-16S-0.5SH-1 to L6924D]

## FH12A-16S-0.5SH-1
designator CN?
pins: 1 KP_IN0, 2 KP_IN1, 3 KP_IN2, 4 KP_IN3, 5 KP_IN4, 6 KP_IN5, 7 KP_IN6, 8 KP_IN7, 9 KP_OUT0, 10 KP_OUT1, 11 KP_OUT2, 12 KP_OUT3, 13 KP_OUT4, 14 KP_OUT5, 15 KP_OUT7, 16 KP_OUT8

## FH12A-40S-0.5SH_55
designator CN?
footprint FFC/SM0.5-2H40 (Connector; FH12 Series; 40 Position; 0.5mm Spaced Bottom Contact)
footprint FFC/SM0.5-2H40a (Connector; FH12 Series; 40 Position; 0.5mm Spaced Top Contact)
pins: 1 K_LED_Backlight, 2 A_LED_Backlight, 3 NC/GND, 4 DVDD_POWER, 5 R0, 6 R1, 7 R2, 8 R3, 9 R4, 10 R5, 11 R6, 12 R7, 13 G0, 14 G1, 15 G2, 16 G3, 17 G4, 18 G5, 19 G6, 20 G7, 21 B0, 22 B1, 23 B2, 24 B3, 25 B4, 26 B5, 27 B6, 28 B7, 29 GND, 30 DCLK, 31 DISP_ON/OFF, 32 HSYNC, 33 VSYNC, 34 DE, 35 NC, 36 GND, 37 TPXR, 38 TPYD, 39 TPXL, 40 TPYU

## FIDUCIAL
designator ?
footprint FID_MARK

## fuse (1812)
designator F?, comment 500mA/1812
footprint fuse
footprint 1206L
footprint 0805
footprint 0603
pins: 1 NA, 2 NA

## GL850G_SOP
designator U?
footprint GL850G_SOP28
pins: 1 AVDD, 2 DM2, 3 DP2, 4 RREF, 5 AVDD, 6 X1, 7 X2, 8 DM3, 9 DP3, 10 AVDD, 11 DM4, 12 DP4, 13 ~{RESET}, 14 TEST/SCL, 15 GND, 16 DVDD, 17 PSELF, 18 PGANG, 19 ~{OVCUR2}, 20 ~{PWREN2}, 21 ~{OVCUR1}, 22 ~{PWREN1}, 23 V5, 24 V33, 25 DM0, 26 DP0, 27 DM1, 28 DP1

## GPS-Module
designator U?, comment Neo-6M-0-001
pins: GND 3, PPS 0, RXD 1, TXD 2, VCC 4

## GPS-PA6C
designator U?, comment GTOP PA6C
FGPMMOPA6C
footprint GPS-PA6C (FGPMMOPA6C)
pins: 1 VCC, 2 NC, 3 GND, 4 VBACKUP, 5 3D-FIX, 6 1PPS, 7 NC, 8 GND, 9 TXD, 10 RXD, 11 GND, 12 GND, 13 GND

## GPS-PA6H
designator U?  (value not drawn)
FGPMMOPA6H - MTK3339
footprint GPS (FGPMMOPA6H - MT3339 CHIP)
pins: 1 VCC, 2 NRESET, 3 GND, 4 VBACKUP, 5 3D-FIX, 6 NC, 7 NC, 8 GND, 9 TX, 10 RX, 11 EX-ANT, 12 GND, 13 1PPS, 14 RTCM, 15 NC, 16 NC, 17 NC, 18 NC, 19 GND, 20 NC
text: GPS

## GSM-ANT
designator ANT?
footprint GSM-ANTENNA (GSM PCB antenna)
pins: 1

## HDMI
designator CN?, comment HDMI_DIP19
footprint HDMI
pins: 1 TD2+, 2 TD2G, 3 TD2-, 4 TD1+, 5 TDG1, 6 TD1-, 7 TD0+, 8 TD0G, 9 TD0-, 10 TDC+, 11 TDCG, 12 TDC-, 13 CEC, 14 NC, 15 SCL, 16 SDA, 17 DDC_CEC_GND, 18 5V, 19 HPD, 20, 21, 22, 23

## Header 2X20 Female 2.54mm
designator P?
footprint Header 2X20 2.54mm (2.54mm  pitch 2X20 for Rasberry Pi)
pins: 1 (power), 2 (power), 3 (power), 4 (power), 5 (power), 6 (power), 7 (power), 8 (power), 9 (power), 10 (power), 11 (power), 12 (power), 13 (power), 14 (power), 15 (power), 16 (power), 17 (power), 18 (power), 19 (power), 20 (power), 21 (power), 22 (power), 23 (power), 24 (power), 25 (power), 26 (power), 27 (power), 28 (power), 29 (power), 30 (power), 31 (power), 32 (power), 33 (power), 34 (power), 35 (power), 36 (power), 37 (power), 38 (power), 39 (power), 40 (power)

## Header X4 connector
designator p?, comment Header X4 special
footprint HEADERx4 CONNECTOR (Power Connector)
pins: 0, 1, 2, 3

## HEADERX1
designator *
footprint HEADERX1 (SINGLE HEADER PIN)
pins: 1

## HeaderX2
designator J?  (value not drawn)
2.54mm Pitch (5mm screw conn)
footprint HEADERX2 (2.54mm Pitch)
footprint Screw Terminal Block (5mm Pitch)
footprint HeaderX2-Special
pins: 0, 1

## HEADERX2H
designator J?, comment HX2H
footprint HEADERX2H
pins: 0, 1, 2, 3

## HeaderX3
designator J?  (value not drawn)
2.54mm Pitch
footprint HEADERx3 (2.54mm Pitch)
pins: 0, 1, 2

## HEADERX3H
designator J?
footprint HEADERX3H
pins: 0, 1, 2, 3, 4, 5

## HeaderX5
designator J?, comment 1729047
5mm Pitch, 5 Pos Screw terminal
footprint Screw Terminal Block (5mm Pitch, 5 Pos)
pins: 0, 1, 2 (power), 3 (power), 4 (power)

## ICA-607
designator CN?
footprint ICA-607
pins: 1 VCC, 2 RST, 3 CLK, 4 C4, 5 GND, 6 VPP, 7 I/O, 8 C8, 9 SCDET, 10 GND

## inductor
designator L?
footprint 0603
footprint INDUCTOR (5.2X5.2)
footprint PA43XX
footprint DR125-INDUCTOR (12.5mmX12.5mmX8mm)
footprint SRN4018_3R3M
footprint VLS3012E (Precision Wire Wound Inductor, 2-Leads, Body 3.0x3.0mm, IPC Medium Density)
footprint 744325550 (10.5mmX10.2mm)
pins: 1, 2

## IRF7319PBF
designator U?
Dual N and P Channel MOSFET
footprint SO-8
pins: 1, 2, 3, 4, 5, 6, 7, 8

## L6924D
designator U?
pins: 1 VIN, 2 VINSNS, 3 ST2, 4 ST1, 5 TPRG, 6 GND, 7 SD, 8 TH, 9 VOPRG, 10 VOSNS, 11 VOUT, 12 VREF, 13 IEND, 14 VPRE, 15 IPRG, 16 IPRE

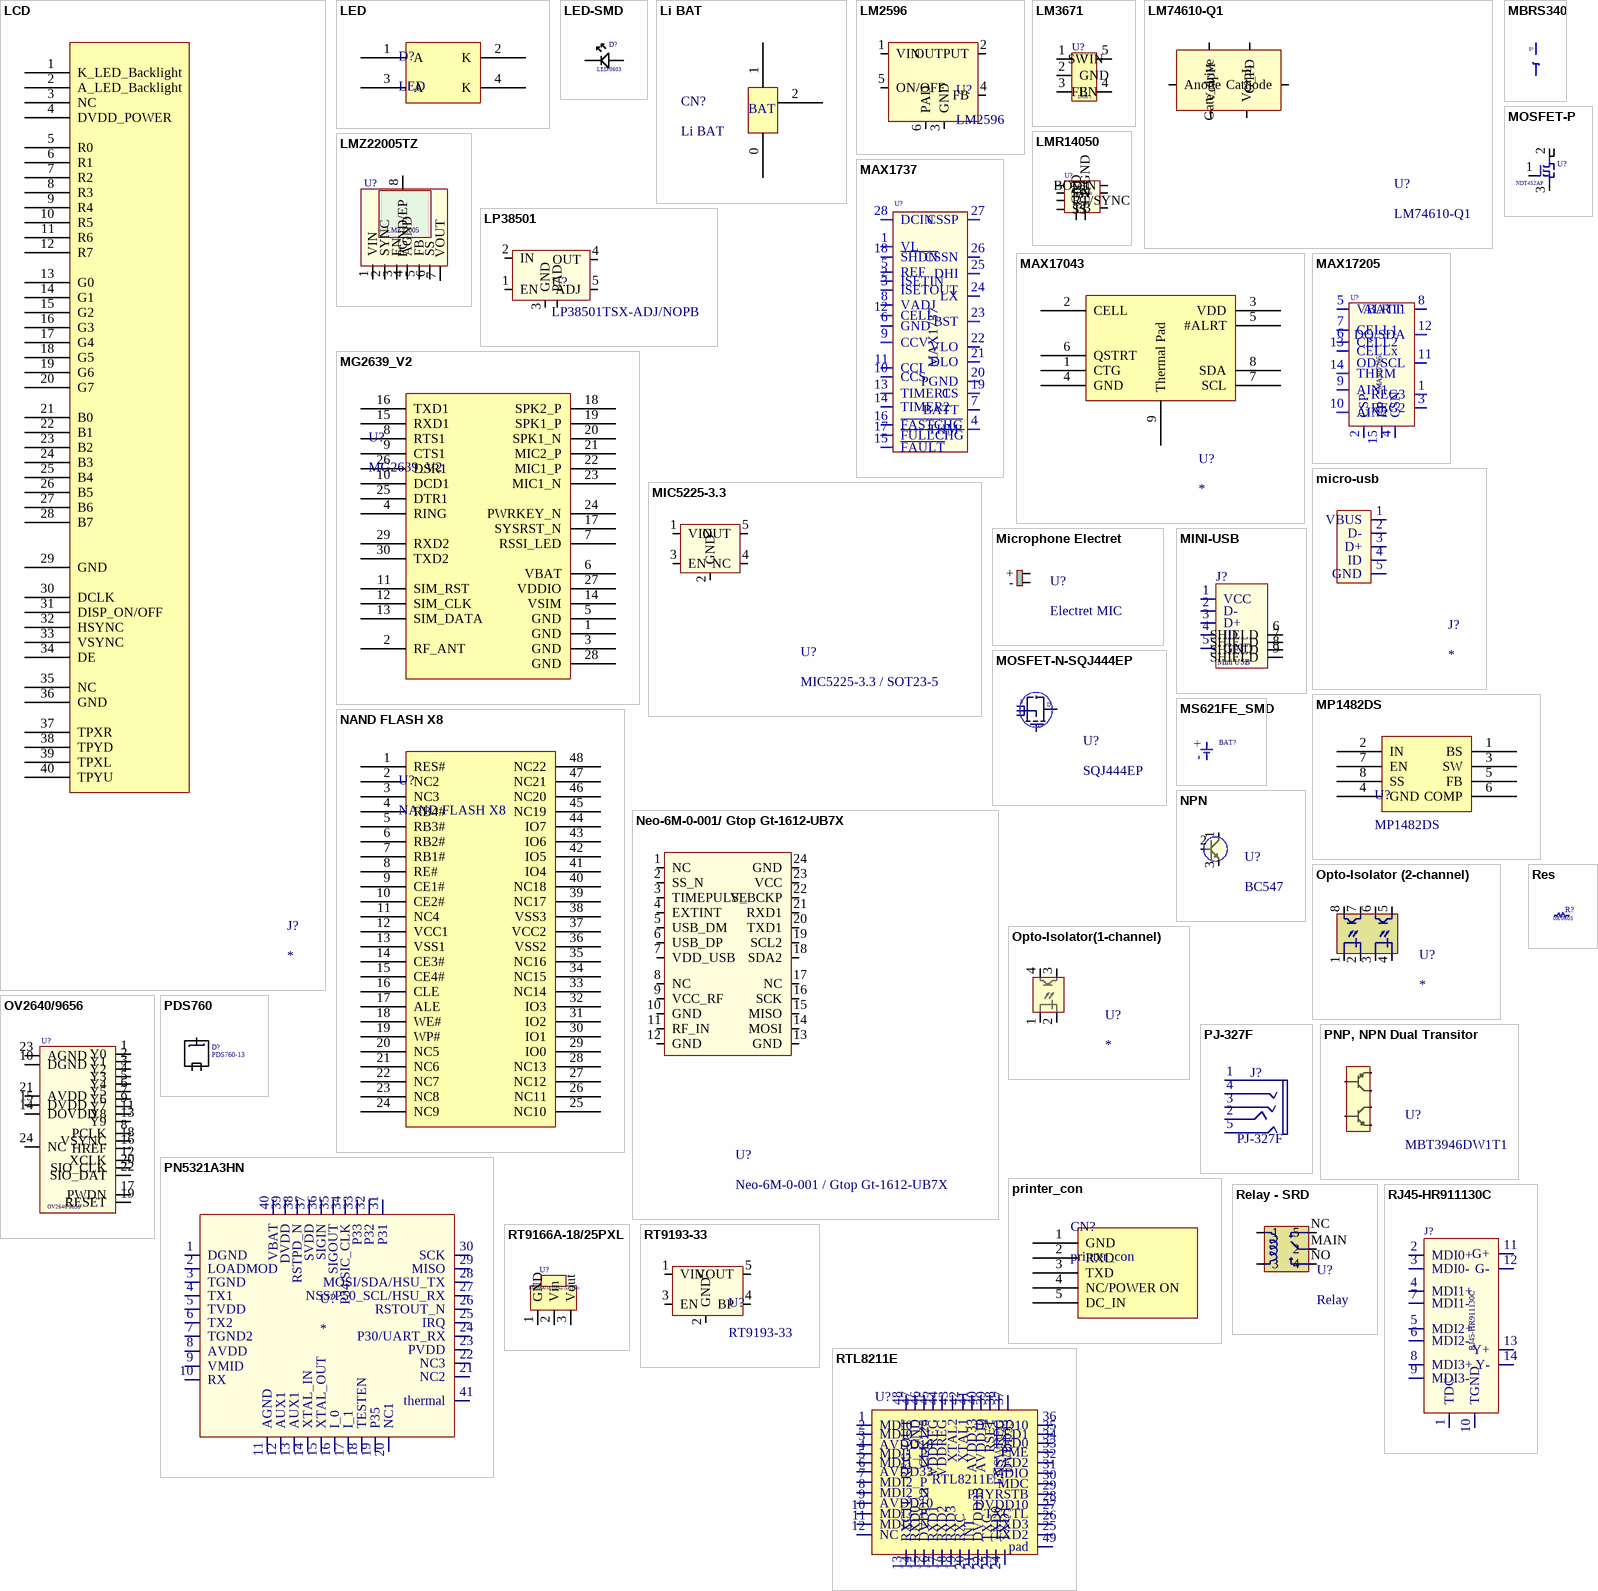
[diagram p5: symbols LCD to RTL8211E]

## LCD
designator J?
footprint FFC/SM0.5-2H40 (Connector; FH12 Series; 40 Position; 0.5mm Spaced Bottom Contact)
footprint FFC/SM0.5-2H40A (Connector; FH12 Series; 40 Position; 0.5mm Spaced Top Contact)
pins: 1 K_LED_Backlight, 2 A_LED_Backlight, 3 NC, 4 DVDD_POWER, 5 R0, 6 R1, 7 R2, 8 R3, 9 R4, 10 R5, 11 R6, 12 R7, 13 G0, 14 G1, 15 G2, 16 G3, 17 G4, 18 G5, 19 G6, 20 G7, 21 B0, 22 B1, 23 B2, 24 B3, 25 B4, 26 B5, 27 B6, 28 B7, 29 GND, 30 DCLK, 31 DISP_ON/OFF, 32 HSYNC, 33 VSYNC, 34 DE, 35 NC, 36 GND, 37 TPXR, 38 TPYD, 39 TPXL, 40 TPYU

## LED
designator D?
pins: 1 A, 2 K, 3 A, 4 K

## LED-SMD
designator D?, comment LED/0603
footprint 0603-LED- POL
footprint 0603 - POL
footprint LED-SMD-RightAngle
pins: A, K

## Li BAT
designator CN?
footprint bat
pins: 0 +, 1 NTC, 2 GND
text: BAT

## LM2596
designator U?
footprint TO-263 (6-pin)
pins: 1 VIN, 2 OUTPUT, 3 GND, 4 FB, 5 ON/OFF, 6 PAD

## LM3671
designator U?
3.3V switch regulator
footprint SOT23-5PIN
pins: 1 VIN, 2 GND, 3 EN, 4 FB, 5 SW

## LM74610-Q1
designator U?
Zero Iq Reverse Polarity Protection IC
footprint MSOP-8
pins: 1 VcapL, 2 G_PD, 3 NC hidden, 4 Anode, 5 NC hidden, 6 Gate_drive, 7 VcapH, 8 Cathode

## LMR14050
designator U?
LMR14050SQDDARQ1
footprint SOIC-8-PAD (SOIC-8-PowerPAD)
pins: 1 BOOT, 2 VIN, 3 EN, 4 RT/SYNC, 5 FB, 6 SS, 7 GND, 8 SW, 9 EP/GND

## LMZ22005TZ
designator U?, comment LMZ22005
LMZ22005 step-down >6V,<5A
footprint 7-PIN NDW
pins: 1 VIN, 2 SYNC, 3 EN, 4 AGND, 5 FB, 6 SS, 7 VOUT, 8 PGND/EP

## LP38501
designator U?, comment LP38501TSX-ADJ/NOPB
footprint TO-263 (6-pin)
pins: 1 EN, 2 IN, 3 GND, 4 OUT, 5 ADJ, 6 PAD

## MAX1737
designator U?
Switch mode Multi Li-Ion Battery charger; PART: MAX1737EEI; TEMP: -40 to +85C; PIN-PACKAGE: 28 QSOP
footprint MAX1737-QSOP-28
pins: 1 VL, 2 ISETIN, 3 ISETOUT, 4 THM, 5 REF, 6 GND, 7 BATT, 8 VADJ, 9 CCV, 10 CCS, 11 CCI, 12 CELL, 13 TIMER1, 14 TIMER2, 15 ~{FAULT}, 16 ~{FASTCHG}, 17 ~{FULLCHG}, 18 ~{SHDN}, 19 CS, 20 PGND, 21 DLO, 22 VLO, 23 BST, 24 LX, 25 DHI, 26 CSSN, 27 CSSP, 28 DCIN

## MAX17043
designator U?
footprint MAX-90-0091
pins: 1 CTG, 2 CELL, 3 VDD, 4 GND, 5 #ALRT, 6 QSTRT, 7 SCL, 8 SDA, 9 Thermal Pad

## MAX17205
designator U?
Multi-Cell Fuel Gauge IC, I2C, TDFN-14
footprint MAX-90-0063 (TDFN 14)
pins: 1 REG3, 2 CSP, 3 REG2, 4 CSN, 5 VBATT, 6 CELL2, 7 CELL1, 8 ALRT1, 9 AIN1, 10 AIN2, 11 OD/SCL, 12 DQ/SDA, 13 CELLx, 14 THRM, 15 EP

## MBRS340
designator D?, comment DIODE  (value not drawn)
Schottkey Rectifier 3.0W 3.0A
footprint MBRS340-DIODE
pins: A, K

## MG2639_V2
designator U?
pins: 1 GND, 2 RF_ANT, 3 GND, 4 RING, 5 GND, 6 VBAT, 7 RSSI_LED, 8 RTS1, 9 CTS1, 10 DCD1, 11 SIM_RST, 12 SIM_CLK, 13 SIM_DATA, 14 VSIM, 15 RXD1, 16 TXD1, 17 SYSRST_N, 18 SPK2_P, 19 SPK1_P, 20 SPK1_N, 21 MIC2_P, 22 MIC1_P, 23 MIC1_N, 24 PWRKEY_N, 25 DTR1, 26 DSR1, 27 VDDIO, 28 GND, 29 RXD2, 30 TXD2

## MIC5225-3.3
designator U?, comment MIC5225-3.3 / SOT23-5
footprint SOT23-5PIN
pins: 1 VIN, 2 GND, 3 EN, 4 NC, 5 OUT

## micro-usb
designator J?
micro-usb
footprint micro_usb
pins: 1 VBUS, 2 D-, 3 D+, 4 ID, 5 GND

## Microphone Electret
designator U?, comment Electret MIC
102-1721-ND
footprint MIC (Electret MIC)
pins: 1 +, 2 -

## MINI-USB
designator J?, comment Mini USB
footprint mini_usb
pins: 1 VCC, 2 D-, 3 D+, 4 ID, 5 GND, 6 SHIELD, 7 SHIELD, 8 SHIELD, 9 SHIELD

## MOSFET-N-SQJ444EP
designator U?, comment SQJ444EP
Automotive N-Channel 40V (D-S) 175C
footprint PowerPAK_SO-8L (TrenchFET Power MOSFET)
pins: 1 S, 2 S, 3 S, 4 G, 5 D

## MOSFET-P
designator U?, comment NDT452AP
P-CHANNEL
footprint sot-223
pins: 1 G, 2 D, 3 S, 4

## MP1482DS
designator U?
pins: 1 BS, 2 IN, 3 SW, 4 GND, 5 FB, 6 COMP, 7 EN, 8 SS

## MS621FE_SMD
designator BAT?  (value not drawn)
MS621FE-SMD 3.0V, 5.5mAh
footprint MS621FE_smd (CMOS Bat 3.0V, 5.5mAh)
pins: +, -

## NAND FLASH X8
designator U?
pins: 1 RES#, 2 NC2, 3 NC3, 4 RB4#, 5 RB3#, 6 RB2#, 7 RB1#, 8 RE#, 9 CE1#, 10 CE2#, 11 NC4, 12 VCC1, 13 VSS1, 14 CE3#, 15 CE4#, 16 CLE, 17 ALE, 18 WE#, 19 WP#, 20 NC5, 21 NC6, 22 NC7, 23 NC8, 24 NC9, 25 NC10, 26 NC11, 27 NC12, 28 NC13, 29 IO0, 30 IO1, 31 IO2, 32 IO3, 33 NC14, 34 NC15, 35 NC16, 36 VSS2, 37 VCC2, 38 VSS3, 39 NC17, 40 NC18, 41 IO4, 42 IO5, 43 IO6, 44 IO7, 45 NC19, 46 NC20, 47 NC21, 48 NC22

## Neo-6M-0-001/ Gtop Gt-1612-UB7X
designator U?, comment Neo-6M-0-001 / Gtop Gt-1612-UB7X
footprint NEO-6M (NEO-6M GPS module)
pins: 1 NC, 2 SS_N, 3 TIMEPULSE, 4 EXTINT, 5 USB_DM, 6 USB_DP, 7 VDD_USB, 8 NC, 9 VCC_RF, 10 GND, 11 RF_IN, 12 GND, 13 GND, 14 MOSI, 15 MISO, 16 SCK, 17 NC, 18 SDA2, 19 SCL2, 20 TXD1, 21 RXD1, 22 V_BCKP, 23 VCC, 24 GND

## NPN
designator U?, comment BC547
footprint TO-92 (BC547)
footprint TO-92 (BC547)
pins: 1 C (power), 2 B (power), 3 E (power)

## Opto-Isolator (2-channel)
designator U?
footprint Opto-Isolator (LTV827S)
pins: 1 (power), 2 (power), 3 (power), 4 (power), 5 (power), 6 (power), 7 (power), 8 (power)

## Opto-Isolator(1-channel)
designator U?
Opto-Isolator (1 channel)
footprint 4-SMD, Gull Wing
pins: 1 (power), 2 (power), 3 (power), 4 (power)

## OV2640/9656
designator U?
footprint FFC/SM0.5-2H24 (Connector; FH12 Series; 24 Position; 0.5mm Spaced Bottom Contact)
pins: 1 Y0, 2 Y1, 3 Y2, 4 Y3, 5 Y4, 6 Y5, 7 Y6, 8 PCLK, 9 Y7, 10 DGND, 11 Y8, 12 XCLK, 13 Y9, 14 DOVDD, 15 DVDD, 16 HREF, 17 PWDN, 18 VSYNC, 19 RESET, 20 SIO_CLK, 21 AVDD, 22 SIO_DAT, 23 AGND, 24 NC

## PDS760
designator D?, comment PDS760-13
Power Diode 7A 42V-rms 60V-peak
footprint POWERDI5 (POWER  DIODE 4.05mmX6.60mm)
pins: A, A, K

## PJ-327F
designator J?
Audio Jack
footprint PJ-327F
pins: 1, 2, 3, 4, 5

## PN5321A3HN
designator U?
NFC controller
footprint HVQFN40 (SOT618-1) (40pin, 0.5pitch, 6X6X0.85 mm)
pins: 1 DGND, 2 LOADMOD, 3 TGND, 4 TX1, 5 TVDD, 6 TX2, 7 TGND2, 8 AVDD, 9 VMID, 10 RX, 11 AGND, 12 AUX1, 13 AUX1, 14 XTAL_IN, 15 XTAL_OUT, 16 I_0, 17 I_1, 18 TESTEN, 19 P35, 20 NC1, 21 NC2, 22 NC3, 23 PVDD, 24 P30/UART_RX, 25 IRQ, 26 RSTOUT_N, 27 NSS/P50_SCL/HSU_RX, 28 MOSI/SDA/HSU_TX, 29 MISO, 30 SCK, 31 P31, 32 P32, 33 P33, 34 P34/SIC_CLK, 35 SIGOUT, 36 SIGIN, 37 SVDD, 38 RSTPD_N, 39 DVDD, 40 VBAT, 41 thermal

## PNP, NPN Dual Transitor
designator U?, comment MBT3946DW1T1
PNP,  NPN
footprint SOT363 / SC70-6
pins: 1 (power), 2 (power), 3 (power), 4 (power), 5 (power), 6 (power)

## printer_con
designator CN?
pins: 1 GND, 2 RXD, 3 TXD, 4 NC/POWER ON, 5 DC_IN

## Relay - SRD
designator U?, comment Relay
SRD-05VDC-SL-C
footprint Relay (SRD-05VDC-SL-C)
pins: 1 (power), 3 (power), MAIN 2 (power), NC 5 (power), NO 4 (power)

## Res
designator R?, comment 0R/0603
Resistor-SMD
footprint 0603
footprint 0402
footprint 2010
footprint 2512
pins: 1, 2

## RJ45-HR911130C
designator J?
RJ45
footprint RJ45
pins: 1 TDC, 2 MDI0+, 3 MDI0-, 4 MDI1+, 5 MDI2+, 6 MDI2-, 7 MDI1-, 8 MDI3+, 9 MDI3-, 10 TGND, 11 G+, 12 G-, 13 Y+, 14 Y-

## RT9166A-18/25PXL
designator U?, comment RT9166A-18/25PXL (L-Type)
Voltage regulators 18PXL=1.8V, 25PXL=2.5V
footprint sot-89
pins: 1 GND, 2 Vin, 3 Vout

## RT9193-33
designator U?
1028-1014-1-ND
footprint SOT23-5PIN
pins: 1 VIN, 2 GND, 3 EN, 4 BP, 5 VOUT

## RTL8211E
designator U?
Ethernet Transceiver
footprint RTL8211
pins: 1 MDI0_P, 2 MDI0_N, 3 AVDD10, 4 MDI1_P, 5 MDI1_N, 6 AVDD33, 7 MDI2_P, 8 MDI2_N, 9 AVDD10, 10 MDI3_P, 11 MDI3_N, 12 NC, 13 RXCTL, 14 RXD0, 15 DVDD33, 16 RXD1, 17 RXD2, 18 RXD3, 19 RXC, 20 INT, 21 DVDD33, 22 TXC, 23 TXD0, 24 TXD1, 25 TXD2, 26 TXD3, 27 TXCTL, 28 DVDD10, 29 PHYRSTB, 30 MDC, 31 MDIO, 32 LED2, 33 PME, 34 LED0, 35 LED1, 36 DVDD10, 37 DVDD33, 38 ENSWREG, 39 RSET, 40 AVDD10, 41 AVDD33, 42 XTAL1, 43 XTAL2, 44 VDDREG, 45 VDDREG, 46 CLK125, 47 GND, 48 REG-OUT, 49 pad

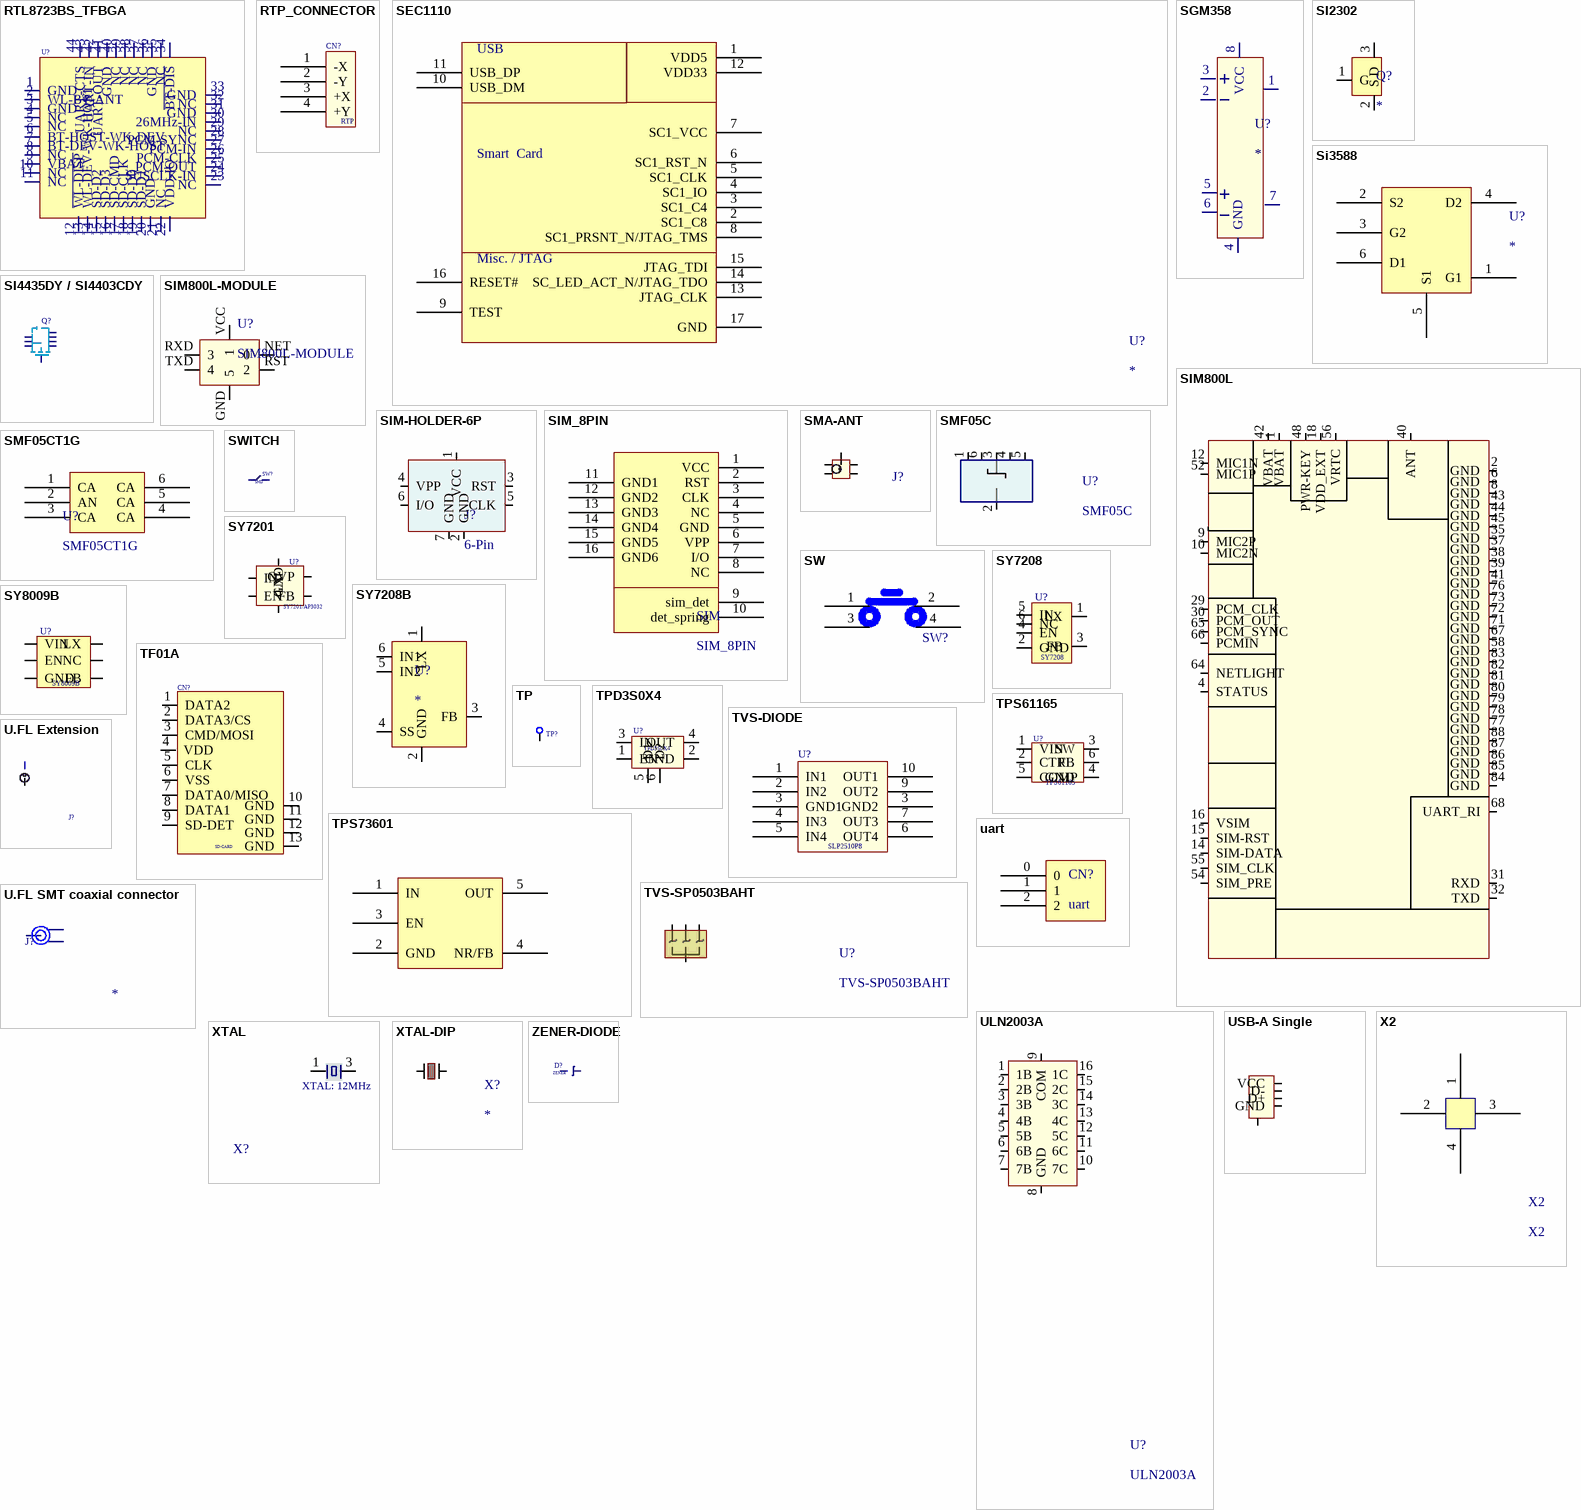
[diagram p6: symbols RTL8723BS_TFBGA to ZENER-DIODE]

## RTL8723BS_TFBGA
designator U?
wifi & bluetooth
footprint WIFI & BLUETOOTH
pins: 1 GND, 2 WL-BT-ANT, 3 GND, 4 NC, 5 NC, 6 BT-HOST-WK-DEV, 7 BT-DEV-WK-HOST, 8 NC, 9 VBAT, 10 NC, 11 NC, 12 ~{WL-DISP}, 13 WL-DEV-WK-HOST, 14 SD-D2, 15 SD-D3, 16 SD-CMD, 17 SD-CLK, 18 SD-D0, 19 SD-D1, 20 GND, 21 NC, 22 VDD-IO, 23 NC, 24 SUSCLK-IN, 25 PCM-OUT, 26 PCM-CLK, 27 PCM-IN, 28 PCM-SYNC, 29 NC, 30 26MHz-IN, 31 GND, 32 NC, 33 GND, 34 ~{BT-DIS}, 35 NC, 36 GND, 37 NC, 38 NC, 39 NC, 40 NC, 41 GND, 42 UART-OUT, 43 UART-IN, 44 UART-CTS

## RTP_CONNECTOR
designator CN?, comment RTP
4 pin, 1mm Pitch, bottom connector
footprint RTP_CONNECTOR (1.0 pitch 4-Pin RTP FPC bottom contact)
pins: 1 -X, 2 -Y, 3 +X, 4 +Y

## SEC1110
designator U?
footprint SEC1110 (QFN, 16-Leads, Body 5.00x5.00mm, Pitch 0.80mm, Thermal Pad 3.30x3.30mm, IPC Medium Density)
pins: 1 VDD5, 2 SC1_C8, 3 SC1_C4, 4 SC1_IO, 5 SC1_CLK, 6 SC1_RST_N, 7 SC1_VCC, 8 SC1_PRSNT_N/JTAG_TMS, 9 TEST, 10 USB_DM, 11 USB_DP, 12 VDD33, 13 JTAG_CLK, 14 SC_LED_ACT_N/JTAG_TDO, 15 JTAG_TDI, 16 RESET#, 17 GND
text: USB; Smart  Card; Misc. / JTAG

## SGM358
designator U?
footprint MSOP-8
pins: 1, 2, 3, 4 GND, 5, 6, 7, 8 VCC

## SI2302
designator Q?
footprint SOT-23 (SOT23, 3-Leads, Body 3.0x2.5mm (max), Pitch 0.95mm, IPC Medium Density)
pins: 1 G, 2 S, 3 D

## Si3588
designator U?
pins: 1 G1, 2 S2, 3 G2, 4 D2, 5 S1, 6 D1

## SI4435DY / SI4403CDY
designator Q?
P-Channel MOSFET
footprint SOIC127P600X135-8N (SOIC, 8-Leads, Body 5.0x4.0mm (max), Pitch 1.27mm, IPC Medium Density)
footprint SOIC-8
footprint SO-8
pins: 1 S, 2 S, 3 S, 4 G, 5 D, 6 D, 7 D, 8 D

## SIM800L
designator U?
footprint SIM800L-FOOTPRINT
pins: 1 VBAT, 2 GND, 4 STATUS, 6 GND, 8 GND, 9 MIC2P, 10 MIC2N, 12 MIC1N, 14 SIM-DATA, 15 SIM-RST, 16 VSIM, 18 VDD_EXT, 29 PCM_CLK, 30 PCM_OUT, 31 RXD, 32 TXD, 35 GND, 37 GND, 38 GND, 39 GND, 40 ANT, 41 GND, 42 VBAT, 43 GND, 44 GND, 45 GND, 48 PWR-KEY, 52 MIC1P, 54 SIM_PRE, 55 SIM_CLK, 56 VRTC, 58 GND, 64 NETLIGHT, 65 PCM_SYNC, 66 PCMIN, 67 GND, 68 UART_RI, 71 GND, 72 GND, 73 GND, 76 GND, 77 GND, 78 GND, 79 GND, 80 GND, 81 GND, 82 GND, 83 GND, 84 GND, 85 GND, 86 GND, 87 GND, 88 GND

## SIM800L-MODULE
designator U?
SIM800L
pins: GND 5, NET 0, RST 2, RXD 3, TXD 4, VCC 1

## SIM-HOLDER-6P
designator J?, comment 6-Pin
XNT-0121AAAA07A
footprint micro_sim (http://www.uctronics.com/5pcs-micro-sim-6pin-1-35h-auto-pop-card-socket-slot-adapter-for-mini-phone-card.html)
pins: 1 VCC, 2 GND, 3 RST, 4 VPP, 5 CLK, 6 I/O, 7 GND

## SIM_8PIN
designator SIM
pins: 1 VCC, 2 RST, 3 CLK, 4 NC, 5 GND, 6 VPP, 7 I/O, 8 NC, 9 sim_det, 10 det_spring, 11 GND1, 12 GND2, 13 GND3, 14 GND4, 15 GND5, 16 GND6

## SMA-ANT
designator J?  (value not drawn)
footprint SMA-CONNECTOR (SMA-J-P-X-RA-TH1)
pins: 1, 2, 3, 4, 5

## SMF05C
designator U?
footprint SOT363 / SC70-6
pins: 1, 2, 3, 4, 5, 6

## SMF05CT1G
designator U?
pins: 1 CA, 2 AN, 3 CA, 4 CA, 5 CA, 6 CA

## SW
designator SW?
pins: 1, 2, 3, 4

## SWITCH
designator SW?, comment SMD
footprint SWITCH_smd_smt_2Lead
pins: 1, 2

## SY7201
designator U?, comment SY7201/AP3032
footprint SOT23-6PIN (SOT23, 6-Leads, Body 3.1x2.6mm (max), Pitch 0.95mm, IPC Medium Density)
pins: 1 LX, 2 GND, 3 FB, 4 EN, 5 OVP, 6 IN

## SY7208
designator U?
footprint SOT23-6PIN (SOT23, 6-Leads, Body 3.1x2.6mm (max), Pitch 0.95mm, IPC Medium Density)
pins: 1 LX, 2 GND, 3 FB, 4 EN, 5 IN, 6 NC

## SY7208B
designator U?
footprint SOT23-6PIN (SOT23, 6-Leads, Body 3.1x2.6mm (max), Pitch 0.95mm, IPC Medium Density)
pins: 1 LX, 2 GND, 3 FB, 4 SS, 5 IN2, 6 IN1

## SY8009B
designator U?
footprint SOT23-6PIN (SOT23, 6-Leads, Body 3.1x2.6mm (max), Pitch 0.95mm, IPC Medium Density)
pins: 1 EN, 2 GND, 3 LX, 4 VIN, 5 NC, 6 FB

## TF01A
designator CN?, comment SD-CARD
footprint Micro-SD-TF01A
pins: 1 DATA2, 2 DATA3/CS, 3 CMD/MOSI, 4 VDD, 5 CLK, 6 VSS, 7 DATA0/MISO, 8 DATA1, 9 SD-DET, 10 GND, 11 GND, 12 GND, 13 GND

## TP
designator TP?
footprint TP
pins: 1

## TPD3S0X4
designator U?
current limit switch + D+/D- ESD USB protection
footprint SOT23-6PIN (SOT23, 6-Leads, Body 3.1x2.6mm (max), Pitch 0.95mm, IPC Medium Density)
pins: 1 EN, 2 GND, 3 IN, 4 OUT, 5 D1, 6 D2

## TPS61165
designator U?
Boost IC
footprint SOT23-6PIN (SOT23, 6-Leads, Body 3.1x2.6mm (max), Pitch 0.95mm, IPC Medium Density)
pins: 1 VIN, 2 CTRL, 3 SW, 4 GND, 5 COMP, 6 FB

## TPS73601
designator U?
pins: 1 IN, 2 GND, 3 EN, 4 NR/FB, 5 OUT

## TVS-DIODE
designator U?, comment SLP2510P8
ESD protection chip
footprint TVS DIODE (SLP2510P8)
pins: 1 IN1, 2 IN2, 3 GND1, 3 GND2, 4 IN3, 5 IN4, 6 OUT4, 7 OUT3, 9 OUT2, 10 OUT1

## TVS-SP0503BAHT
designator U?
TVS Diode
footprint SOT143 (SP0503BAHT)
pins: 1 (power), 2 (power), 3 (power), 4 (power)

## U.FL Extension
designator J?  (value not drawn)
UFL antenna extension
footprint U.FL-Extension (For wifi extention)
pins: 1, 2 GND (power)

## U.FL SMT coaxial connector
designator J?
footprint U.FL_SMT_CON
pins: 1, 2, 3

## uart
designator CN?
pins: 0, 1, 2

## ULN2003A
designator U?
ULN2003AIDE4
footprint SOIC16
pins: 1 1B, 2 2B, 3 3B, 4 4B, 5 5B, 6 6B, 7 7B, 8 GND, 9 COM, 10 7C, 11 6C, 12 5C, 13 4C, 14 3C, 15 2C, 16 1C

## USB-A Single
designator J?, comment USB-A
USB-A single
footprint USB-A (USB type A Single)
footprint USB-A Mid-Mount (USB-A, Mid-Mount Through Hole)
pins: 1 VCC, 2 D-, 3 D+, 4 GND, 5 Shield

## X2
designator X2
pins: 1 2, 2 1, 3, 4

## XTAL
designator X?: 12MHz  (hidden comment: XTAL)
footprint XTAL-smd
pins: 1 XIN, 2 GND (power) hidden to GND, 3 XOUT, 4 GND hidden to GND

## XTAL-DIP
designator X?
footprint XTAL
footprint HC49 (Crystal SMD)
pins: 1, 2

## ZENER-DIODE
designator D?, comment ZENER
Zener Diode
footprint SOD128-DIODE
footprint SOD123-POL
footprint SOD-323 (DIODE)
footprint DO-214AA - Power Diode
footprint SMB
pins: A, K